# Altium integrated library Lattice Semiconductor ECP3.IntLib: 126 symbols (part 7 of 29)
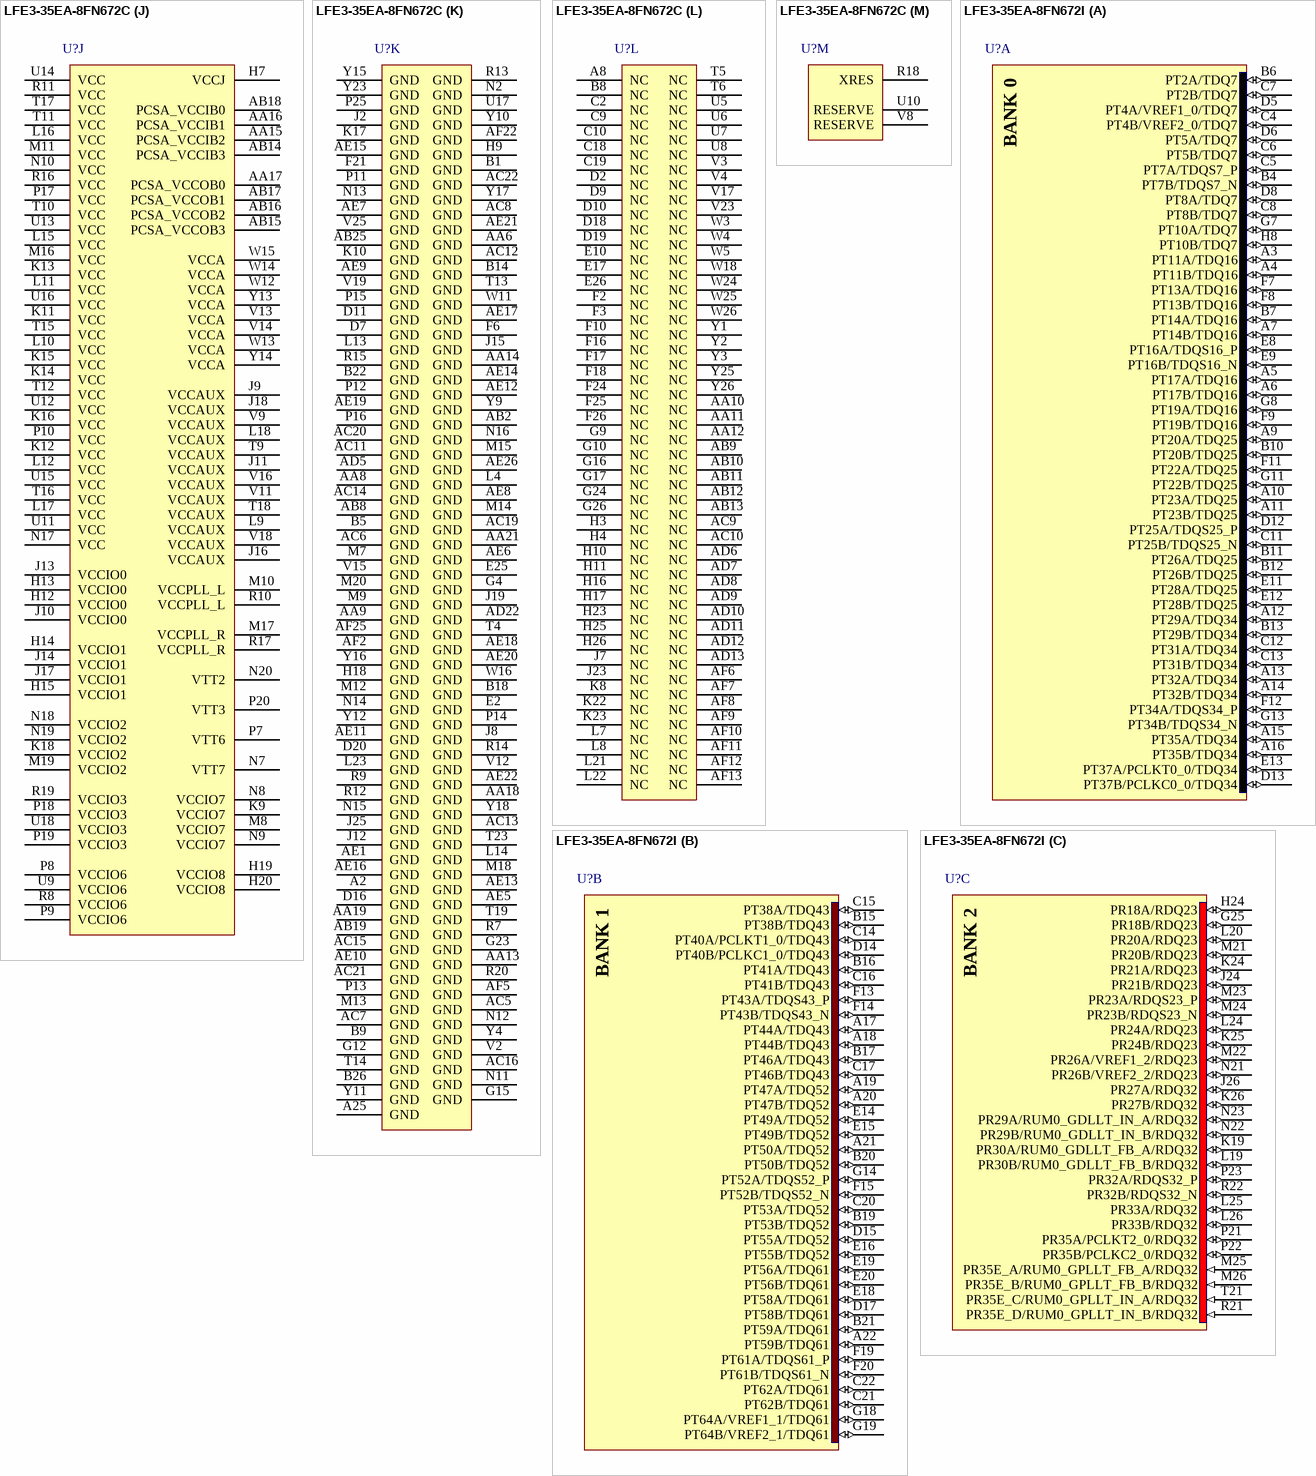
[diagram p262: symbols LFE3-35EA-8FN672C to LFE3-35EA-8FN672I]

## LFE3-35EA-8FN672C
designator U?
ECP3 1.2V FPGA, 310 I/Os, 33K LUTs, 672-Pin BGA, Speed Grade 8, Commercial Grade, Pb-Free; DatasheetVersion: Ver 01.9EA, Jul-2011; PackageVersion: ver02.8, Jul-2011; PackageReference: fpBGA672; PackageDescription: 672-Ball Fine Pitch Ball Grid Array (fpBGA672); ComponentLink1Description: Manufacturer URL; ComponentLink1URL: http://www.latticesemi.com/; ComponentLink2Description: Datasheet; ComponentLink2URL: http://www.latticesemi.com/documents/ds1021ea.pdf; ComponentLink3Description: Package Specification; ComponentLink3URL: http://www.latticesemi.com/lit/docs/package/pkg.pdf
footprint fpBGA672 (BGA, 672-Leads, Body 27x27mm, Pitch 1mm)
part A pins: A3 PT11A/TDQ16 (io), A4 PT11B/TDQ16 (io), A5 PT17A/TDQ16 (io), A6 PT17B/TDQ16 (io), A7 PT14B/TDQ16 (io), A9 PT20A/TDQ25 (io), A10 PT23A/TDQ25 (io), A11 PT23B/TDQ25 (io), A12 PT29A/TDQ34 (io), A13 PT32A/TDQ34 (io), A14 PT32B/TDQ34 (io), A15 PT35A/TDQ34 (io), A16 PT35B/TDQ34 (io), B4 PT7B/TDQS7_N (io), B6 PT2A/TDQ7 (io), B7 PT14A/TDQ16 (io), B10 PT20B/TDQ25 (io), B11 PT26A/TDQ25 (io), B12 PT26B/TDQ25 (io), B13 PT29B/TDQ34 (io), C4 PT4B/VREF2_0/TDQ7 (io), C5 PT7A/TDQS7_P (io), C6 PT5B/TDQ7 (io), C7 PT2B/TDQ7 (io), C8 PT8B/TDQ7 (io), C11 PT25B/TDQS25_N (io), C12 PT31A/TDQ34 (io), C13 PT31B/TDQ34 (io), D5 PT4A/VREF1_0/TDQ7 (io), D6 PT5A/TDQ7 (io), D8 PT8A/TDQ7 (io), D12 PT25A/TDQS25_P (io), D13 PT37B/PCLKC0_0/TDQ34 (io), E8 PT16A/TDQS16_P (io), E9 PT16B/TDQS16_N (io), E11 PT28A/TDQ25 (io), E12 PT28B/TDQ25 (io), E13 PT37A/PCLKT0_0/TDQ34 (io), F7 PT13A/TDQ16 (io), F8 PT13B/TDQ16 (io), F9 PT19B/TDQ16 (io), F11 PT22A/TDQ25 (io), F12 PT34A/TDQS34_P (io), G7 PT10A/TDQ7 (io), G8 PT19A/TDQ16 (io), G11 PT22B/TDQ25 (io), G13 PT34B/TDQS34_N (io), H8 PT10B/TDQ7 (io)
part B pins: A17 PT44A/TDQ43 (io), A18 PT44B/TDQ43 (io), A19 PT47A/TDQ52 (io), A20 PT47B/TDQ52 (io), A21 PT50A/TDQ52 (io), A22 PT59B/TDQ61 (io), B15 PT38B/TDQ43 (io), B16 PT41A/TDQ43 (io), B17 PT46A/TDQ43 (io), B19 PT53B/TDQ52 (io), B20 PT50B/TDQ52 (io), B21 PT59A/TDQ61 (io), C14 PT40A/PCLKT1_0/TDQ43 (io), C15 PT38A/TDQ43 (io), C16 PT41B/TDQ43 (io), C17 PT46B/TDQ43 (io), C20 PT53A/TDQ52 (io), C21 PT62B/TDQ61 (io), C22 PT62A/TDQ61 (io), D14 PT40B/PCLKC1_0/TDQ43 (io), D15 PT55A/TDQ52 (io), D17 PT58B/TDQ61 (io), E14 PT49A/TDQ52 (io), E15 PT49B/TDQ52 (io), E16 PT55B/TDQ52 (io), E18 PT58A/TDQ61 (io), E19 PT56A/TDQ61 (io), E20 PT56B/TDQ61 (io), F13 PT43A/TDQS43_P (io), F14 PT43B/TDQS43_N (io), F15 PT52B/TDQS52_N (io), F19 PT61A/TDQS61_P (io), F20 PT61B/TDQS61_N (io), G14 PT52A/TDQS52_P (io), G18 PT64A/VREF1_1/TDQ61 (io), G19 PT64B/VREF2_1/TDQ61 (io)
part C pins: G25 PR18B/RDQ23 (io), H24 PR18A/RDQ23 (io), J24 PR21B/RDQ23 (io), J26 PR27A/RDQ32 (io), K19 PR30A/RUM0_GDLLT_FB_A/RDQ32 (io), K24 PR21A/RDQ23 (io), K25 PR24B/RDQ23 (io), K26 PR27B/RDQ32 (io), L19 PR30B/RUM0_GDLLT_FB_B/RDQ32 (io), L20 PR20A/RDQ23 (io), L24 PR24A/RDQ23 (io), L25 PR33A/RDQ32 (io), L26 PR33B/RDQ32 (io), M21 PR20B/RDQ23 (io), M22 PR26A/VREF1_2/RDQ23 (io), M23 PR23A/RDQS23_P (io), M24 PR23B/RDQS23_N (io), M25 PR35E_A/RUM0_GPLLT_FB_A/RDQ32 (in), M26 PR35E_B/RUM0_GPLLT_FB_B/RDQ32 (in), N21 PR26B/VREF2_2/RDQ23 (io), N22 PR29B/RUM0_GDLLT_IN_B/RDQ32 (io), N23 PR29A/RUM0_GDLLT_IN_A/RDQ32 (io), P21 PR35A/PCLKT2_0/RDQ32 (io), P22 PR35B/PCLKC2_0/RDQ32 (io), P23 PR32A/RDQS32_P (io), R21 PR35E_D/RUM0_GPLLT_IN_B/RDQ32 (in), R22 PR32B/RDQS32_N (io), T21 PR35E_C/RUM0_GPLLT_IN_A/RDQ32 (in)
part D pins: AA20 PB73B (io), AA22 PR68B/RDQS68_N (io), AA23 PR62B/RDQ59 (io), AA24 PR62A/RDQ59 (io), AA25 PR54A/RDQ59 (io), AA26 PR57A/RDQ59 (io), AB20 PB67A (io), AB21 PB67B (io), AB22 PB71B (io), AB23 PB71A (io), AB24 PR66A/RDQ68 (io), AB26 PR57B/RDQ59 (io), AC23 PB65B (io), AC24 PR66B/RDQ68 (io), AC25 PR63B/RDQ68 (io), AC26 PR63A/RDQ68 (io), AD23 PB65A (io), AD24 PR71A/RDQ68 (io), AD25 PR60B/RDQ59 (io), AD26 PR60A/RDQ59 (io), AE23 PB68B (io), AE24 PR71B/RDQ68 (io), AE25 PR69A/RDQ68 (io), AF23 PB68A (io), AF24 PR69B/RDQ68 (io), N24 PR36A/RDQ41 (io), N25 PR36B/RDQ41 (io), N26 PR42A/RDQ41 (io), P24 PR39A/RDQ41 (io), P26 PR42B/RDQ41 (io), R23 PR41A/RDQS41_P (io), R24 PR39B/RDQ41 (io), R25 PR45A/RDQ50 (io), R26 PR45B/RDQ50 (io), T20 PR44A/VREF1_3/RDQ41 (io), T22 PR41B/RDQS41_N (io), T24 PR48B/RDQ50 (io), T25 PR48A/RDQ50 (io), T26 PR51A/RDQ50 (io), U19 PR38B/PCLKC3_0/RDQ41 (io), U20 PR38A/PCLKT3_0/RDQ41 (io), U21 PR44B/VREF2_3/RDQ41 (io), U22 PR53B/RDQ50 (io), U23 PR53A/RDQ50 (io), U24 PR47A/RDQ50 (io), U25 PR53E_A/RLM1_GPLLT_FB_A/RDQ50 (in), U26 PR51B/RDQ50 (io), V20 PR53E_C/RLM1_GPLLT_IN_A/RDQ50 (in), V21 PR50A/RDQS50_P (io), V22 PR50B/RDQS50_N (io), V24 PR47B/RDQ50 (io), V26 PR53E_B/RLM1_GPLLT_FB_B/RDQ50 (in), W17 PB70A (io), W19 PR53E_D/RLM1_GPLLT_IN_B/RDQ50 (in), W20 PR59B/RDQS59_N (io), W21 PR59A/RDQS59_P (io), W22 PR56B/RDQ59 (io), W23 PR56A/RDQ59 (io), Y19 PR65A/RDQ68 (io), Y20 PR65B/RDQ68 (io), Y21 PB73A (io), Y22 PR68A/RDQS68_P (io), Y24 PR54B/RDQ59 (io)
part E pins: AA1 PL54A/LDQ59 (io), AA2 PL54B/LDQ59 (io), AA3 PL63A/LDQ68 (io), AA4 PL63B/LDQ68 (io), AA5 PL62B/LDQ59 (io), AA7 PB4A (io), AB1 PL57A/LDQ59 (io), AB3 PL66A/LDQ68 (io), AB4 PL66B/LDQ68 (io), AB5 PL65A/LDQ68 (io), AB6 PL65B/LDQ68 (io), AB7 PB4B (io), AC1 PL57B/LDQ59 (io), AC2 PL60A/LDQ59 (io), AC3 PL60B/LDQ59 (io), AC4 PB5B (io), AD1 PL69A/LDQ68 (io), AD2 PL69B/LDQ68 (io), AD3 PB5A (io), AD4 PB2A (io), AE2 PB8A (io), AE3 PB2B (io), AE4 PB11A (io), AF3 PB8B (io), AF4 PB11B (io), N3 PL41A/LDQS41_P (io), N5 PL38A/PCLKT6_0/LDQ41 (io), N6 PL38B/PCLKC6_0/LDQ41 (io), P1 PL36A/LDQ41 (io), P2 PL36B/LDQ41 (io), P3 PL41B/LDQS41_N (io), P4 PL45A/LDQ50 (io), P5 PL44A/VREF1_6/LDQ41 (io), P6 PL44B/VREF2_6/LDQ41 (io), R1 PL39A/LDQ41 (io), R2 PL39B/LDQ41 (io), R3 PL45B/LDQ50 (io), R4 PL50B/LDQS50_N (io), R5 PL47A/LDQ50 (io), R6 PL47B/LDQ50 (io), T1 PL48A/LDQ50 (io), T2 PL42A/LDQ41 (io), T3 PL50A/LDQS50_P (io), T7 PL53A/LDQ50 (io), T8 PL53B/LDQ50 (io), U1 PL48B/LDQ50 (io), U2 PL51B/LDQ50 (io), U3 PL42B/LDQ41 (io), U4 PL53E_C/LLM1_GPLLT_IN_A (in), V1 PL51A/LDQ50 (io), V5 PL53E_D/LLM1_GPLLT_IN_B (in), V6 PL56A/LDQ59 (io), V7 PL56B/LDQ59 (io), V10 PB13A (io), W1 PL53E_A/LLM1_GPLLT_FB_A (in), W2 PL53E_B/LLM1_GPLLT_FB_B (in), W6 PL59B/LDQS59_N (io), W7 PL59A/LDQS59_P (io), W8 PL71A/LDQ68 (io), W9 PL71B/LDQ68 (io), W10 PB13B (io), Y5 PL62A/LDQ59 (io), Y6 PL68A/LDQS68_P (io), Y7 PL68B/LDQS68_N (io), Y8 PB10A (io)
part F pins: B2 PL9A/LDQ14 (io), B3 PL9B/LDQ14 (io), C1 PL21B/LDQ23 (io), C3 PL12A/LDQ14 (io), D1 PL21A/LDQ23 (io), D3 PL12B/LDQ14 (io), D4 PL11A/LDQ14 (io), E1 PL24A/LDQ23 (io), E3 PL15A/LDQ14 (io), E4 PL11B/LDQ14 (io), F1 PL24B/LDQ23 (io), F4 PL15B/LDQ14 (io), G1 PL27B/LDQ32 (io), G2 PL6A (io), G3 PL6B (io), G5 PL14A/LDQS14_P (io), G6 PL14B/LDQS14_N (io), H1 PL30A/LUM0_GDLLT_FB_A/LDQ32 (io), H2 PL27A/LDQ32 (io), H5 PL8A (io), H6 PL17A/LDQ14 (io), J1 PL30B/LUM0_GDLLT_FB_B/LDQ32 (io), J3 PL20B/LDQ23 (io), J4 PL20A/LDQ23 (io), J5 PL8B (io), J6 PL17B/LDQ14 (io), K1 PL18B/LDQ23 (io), K2 PL18A/LDQ23 (io), K3 PL29A/LUM0_GDLLT_IN_A/LDQ32 (io), K4 PL23A/LDQS23_P (io), K5 PL23B/LDQS23_N (io), K6 PL5B (io), K7 PL5A (io), L1 PL33B/LDQ32 (io), L2 PL33A/LDQ32 (io), L3 PL29B/LUM0_GDLLT_IN_B/LDQ32 (io), L5 PL26A/VREF1_7/LDQ23 (io), L6 PL26B/VREF2_7/LDQ23 (io), M1 PL35E_A/LUM0_GPLLT_FB_A (in), M2 PL35E_D/LUM0_GPLLT_IN_B (in), M3 PL35E_C/LUM0_GPLLT_IN_A (in), M4 PL35A/PCLKT7_0/LDQ32 (io), M5 PL32A/LDQS32_P (io), M6 PL32B/LDQS32_N (io), N1 PL35E_B/LUM0_GPLLT_FB_B (in), N4 PL35B/PCLKC7_0/LDQ32 (io)
part G pins: B25 PR15A/D5 (io), C23 PR6A (io), C24 PR6B/DI/CSSPI0N/CSSPIN (io), C25 PR9B/MCLK (io), C26 PR15B/D6/SPID1 (io), D21 PT68B (io), D22 PT68A (io), D23 PR11B/D0/SPIFASTN (io), D24 PR9A/DOUT/CSON/CSSPI1N (io), D25 PR12A/D1 (io), D26 PR12B/D2 (io), E22 PT71B (io), E23 PT71A (io), E24 PR11A/WRITEN (io), F22 PT73B (io), F23 PT73A (io), G20 PT70A (io), G21 PT70B (io), G22 PR8A/CS1N/HOLDN/CONT2N (io), H22 PR8B/CSN/SN/CONT1N (io), J21 PR14A/D3/SI (io), J22 PR14B/D4/SO (io), K20 PR17A/D7/SPID0 (io), K21 PR17B/BUSY/SISPI (io)
part H pins: A23 CFG1 (in), A24 CCLK (in), B23 CFG0 (in), B24 DONE (io), E5 TCK (in), E6 TMS (in), E7 TDO (out), E21 CFG2 (in), F5 TDI (in), H21 INITN (io), J20 PROGRAMN (in)
part I pins: AC17 PCSA_REFCLKP (in), AC18 PCSA_REFCLKN (in), AD14 PCSA_HDINP3 (in), AD15 PCSA_HDINN3 (in), AD16 PCSA_HDINN2 (in), AD17 PCSA_HDINP2 (in), AD18 PCSA_HDINP1 (in), AD19 PCSA_HDINN1 (in), AD20 PCSA_HDINN0 (in), AD21 PCSA_HDINP0 (in), AF14 PCSA_HDOUTP3 (out), AF15 PCSA_HDOUTN3 (out), AF16 PCSA_HDOUTN2 (out), AF17 PCSA_HDOUTP2 (out), AF18 PCSA_HDOUTP1 (out), AF19 PCSA_HDOUTN1 (out), AF20 PCSA_HDOUTN0 (out), AF21 PCSA_HDOUTP0 (out)
part J pins: AA15 PCSA_VCCIB2 (power), AA16 PCSA_VCCIB1 (power), AA17 PCSA_VCCOB0 (power), AB14 PCSA_VCCIB3 (power), AB15 PCSA_VCCOB3 (power), AB16 PCSA_VCCOB2 (power), AB17 PCSA_VCCOB1 (power), AB18 PCSA_VCCIB0 (power), H7 VCCJ (power), H12 VCCIO0 (power), H13 VCCIO0 (power), H14 VCCIO1 (power), H15 VCCIO1 (power), H19 VCCIO8 (power), H20 VCCIO8 (power), J9 VCCAUX (power), J10 VCCIO0 (power), J11 VCCAUX (power), J13 VCCIO0 (power), J14 VCCIO1 (power), J16 VCCAUX (power), J17 VCCIO1 (power), J18 VCCAUX (power), K9 VCCIO7 (power), K11 VCC (power), K12 VCC (power), K13 VCC (power), K14 VCC (power), K15 VCC (power), K16 VCC (power), K18 VCCIO2 (power), L9 VCCAUX (power), L10 VCC (power), L11 VCC (power), L12 VCC (power), L15 VCC (power), L16 VCC (power), L17 VCC (power), L18 VCCAUX (power), M8 VCCIO7 (power), M10 VCCPLL_L (power), M11 VCC (power), M16 VCC (power), M17 VCCPLL_R (power), M19 VCCIO2 (power), N7 VTT7 (power), N8 VCCIO7 (power), N9 VCCIO7 (power), N10 VCC (power), N17 VCC (power), N18 VCCIO2 (power), N19 VCCIO2 (power), N20 VTT2 (power), P7 VTT6 (power), P8 VCCIO6 (power), P9 VCCIO6 (power), P10 VCC (power), P17 VCC (power), P18 VCCIO3 (power), P19 VCCIO3 (power), P20 VTT3 (power), R8 VCCIO6 (power), R10 VCCPLL_L (power), R11 VCC (power), R16 VCC (power), R17 VCCPLL_R (power), R19 VCCIO3 (power), T9 VCCAUX (power), T10 VCC (power), T11 VCC (power), T12 VCC (power), T15 VCC (power), T16 VCC (power), T17 VCC (power), T18 VCCAUX (power), U9 VCCIO6 (power), U11 VCC (power), U12 VCC (power), U13 VCC (power), U14 VCC (power), U15 VCC (power), U16 VCC (power), U18 VCCIO3 (power), V9 VCCAUX (power), V11 VCCAUX (power), V13 VCCA (power), V14 VCCA (power), V16 VCCAUX (power), V18 VCCAUX (power), W12 VCCA (power), W13 VCCA (power), W14 VCCA (power), W15 VCCA (power), Y13 VCCA (power), Y14 VCCA (power)
part K pins: A2 GND (power), A25 GND (power), AA6 GND (power), AA8 GND (power), AA9 GND (power), AA13 GND (power), AA14 GND (power), AA18 GND (power), AA19 GND (power), AA21 GND (power), AB2 GND (power), AB8 GND (power), AB19 GND (power), AB25 GND (power), AC5 GND (power), AC6 GND (power), AC7 GND (power), AC8 GND (power), AC11 GND (power), AC12 GND (power), AC13 GND (power), AC14 GND (power), AC15 GND (power), AC16 GND (power), AC19 GND (power), AC20 GND (power), AC21 GND (power), AC22 GND (power), AD5 GND (power), AD22 GND (power), AE1 GND (power), AE5 GND (power), AE6 GND (power), AE7 GND (power), AE8 GND (power), AE9 GND (power), AE10 GND (power), AE11 GND (power), AE12 GND (power), AE13 GND (power), AE14 GND (power), AE15 GND (power), AE16 GND (power), AE17 GND (power), AE18 GND (power), AE19 GND (power), AE20 GND (power), AE21 GND (power), AE22 GND (power), AE26 GND (power), AF2 GND (power), AF5 GND (power), AF22 GND (power), AF25 GND (power), B1 GND (power), B5 GND (power), B9 GND (power), B14 GND (power), B18 GND (power), B22 GND (power), B26 GND (power), D7 GND (power), D11 GND (power), D16 GND (power), D20 GND (power), E2 GND (power), E25 GND (power), F6 GND (power), F21 GND (power), G4 GND (power), G12 GND (power), G15 GND (power), G23 GND (power), H9 GND (power), H18 GND (power), J2 GND (power), J8 GND (power), J12 GND (power), J15 GND (power), J19 GND (power), J25 GND (power), K10 GND (power), K17 GND (power), L4 GND (power), L13 GND (power), L14 GND (power), L23 GND (power), M7 GND (power), M9 GND (power), M12 GND (power), M13 GND (power), M14 GND (power), M15 GND (power), M18 GND (power), M20 GND (power), N2 GND (power), N11 GND (power), N12 GND (power), N13 GND (power), N14 GND (power), N15 GND (power), N16 GND (power), P11 GND (power), P12 GND (power), P13 GND (power), P14 GND (power), P15 GND (power), P16 GND (power), P25 GND (power), R7 GND (power), R9 GND (power), R12 GND (power), R13 GND (power), R14 GND (power), R15 GND (power), R20 GND (power), T4 GND (power), T13 GND (power), T14 GND (power), T19 GND (power), T23 GND (power), U17 GND (power), V2 GND (power), V12 GND (power), V15 GND (power), V19 GND (power), V25 GND (power), W11 GND (power), W16 GND (power), Y4 GND (power), Y9 GND (power), Y10 GND (power), Y11 GND (power), Y12 GND (power), Y15 GND (power), Y16 GND (power), Y17 GND (power), Y18 GND (power), Y23 GND (power)
part L pins: A8 NC, AA10 NC, AA11 NC, AA12 NC, AB9 NC, AB10 NC, AB11 NC, AB12 NC, AB13 NC, AC9 NC, AC10 NC, AD6 NC, AD7 NC, AD8 NC, AD9 NC, AD10 NC, AD11 NC, AD12 NC, AD13 NC, AF6 NC, AF7 NC, AF8 NC, AF9 NC, AF10 NC, AF11 NC, AF12 NC, AF13 NC, B8 NC, C2 NC, C9 NC, C10 NC, C18 NC, C19 NC, D2 NC, D9 NC, D10 NC, D18 NC, D19 NC, E10 NC, E17 NC, E26 NC, F2 NC, F3 NC, F10 NC, F16 NC, F17 NC, F18 NC, F24 NC, F25 NC, F26 NC, G9 NC, G10 NC, G16 NC, G17 NC, G24 NC, G26 NC, H3 NC, H4 NC, H10 NC, H11 NC, H16 NC, H17 NC, H23 NC, H25 NC, H26 NC, J7 NC, J23 NC, K8 NC, K22 NC, K23 NC, L7 NC, L8 NC, L21 NC, L22 NC, T5 NC, T6 NC, U5 NC, U6 NC, U7 NC, U8 NC, V3 NC, V4 NC, V17 NC, V23 NC, W3 NC, W4 NC, W5 NC, W18 NC, W24 NC, W25 NC, W26 NC, Y1 NC, Y2 NC, Y3 NC, Y25 NC, Y26 NC
part M pins: R18 XRES, U10 RESERVE, V8 RESERVE
part A text: BANK 0
part B text: BANK 1
part C text: BANK 2
part D text: BANK 3
part E text: BANK 6
part F text: BANK 7
part G text: BANK 8

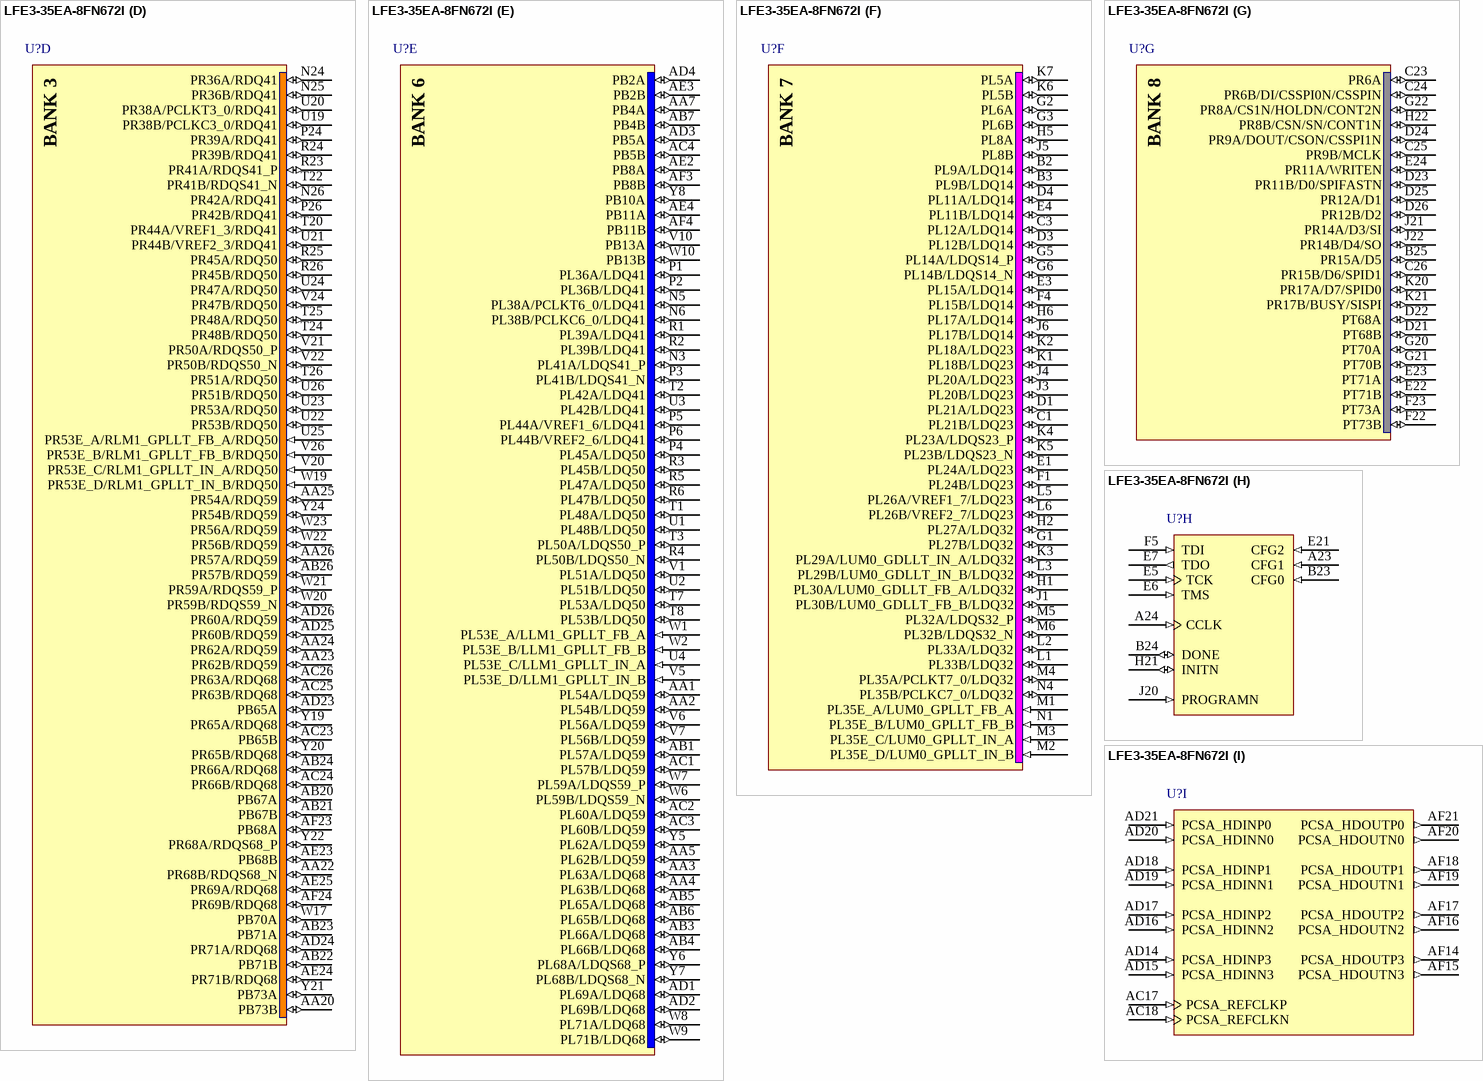
[diagram p38: symbol LFE3-35EA-8FN672I]

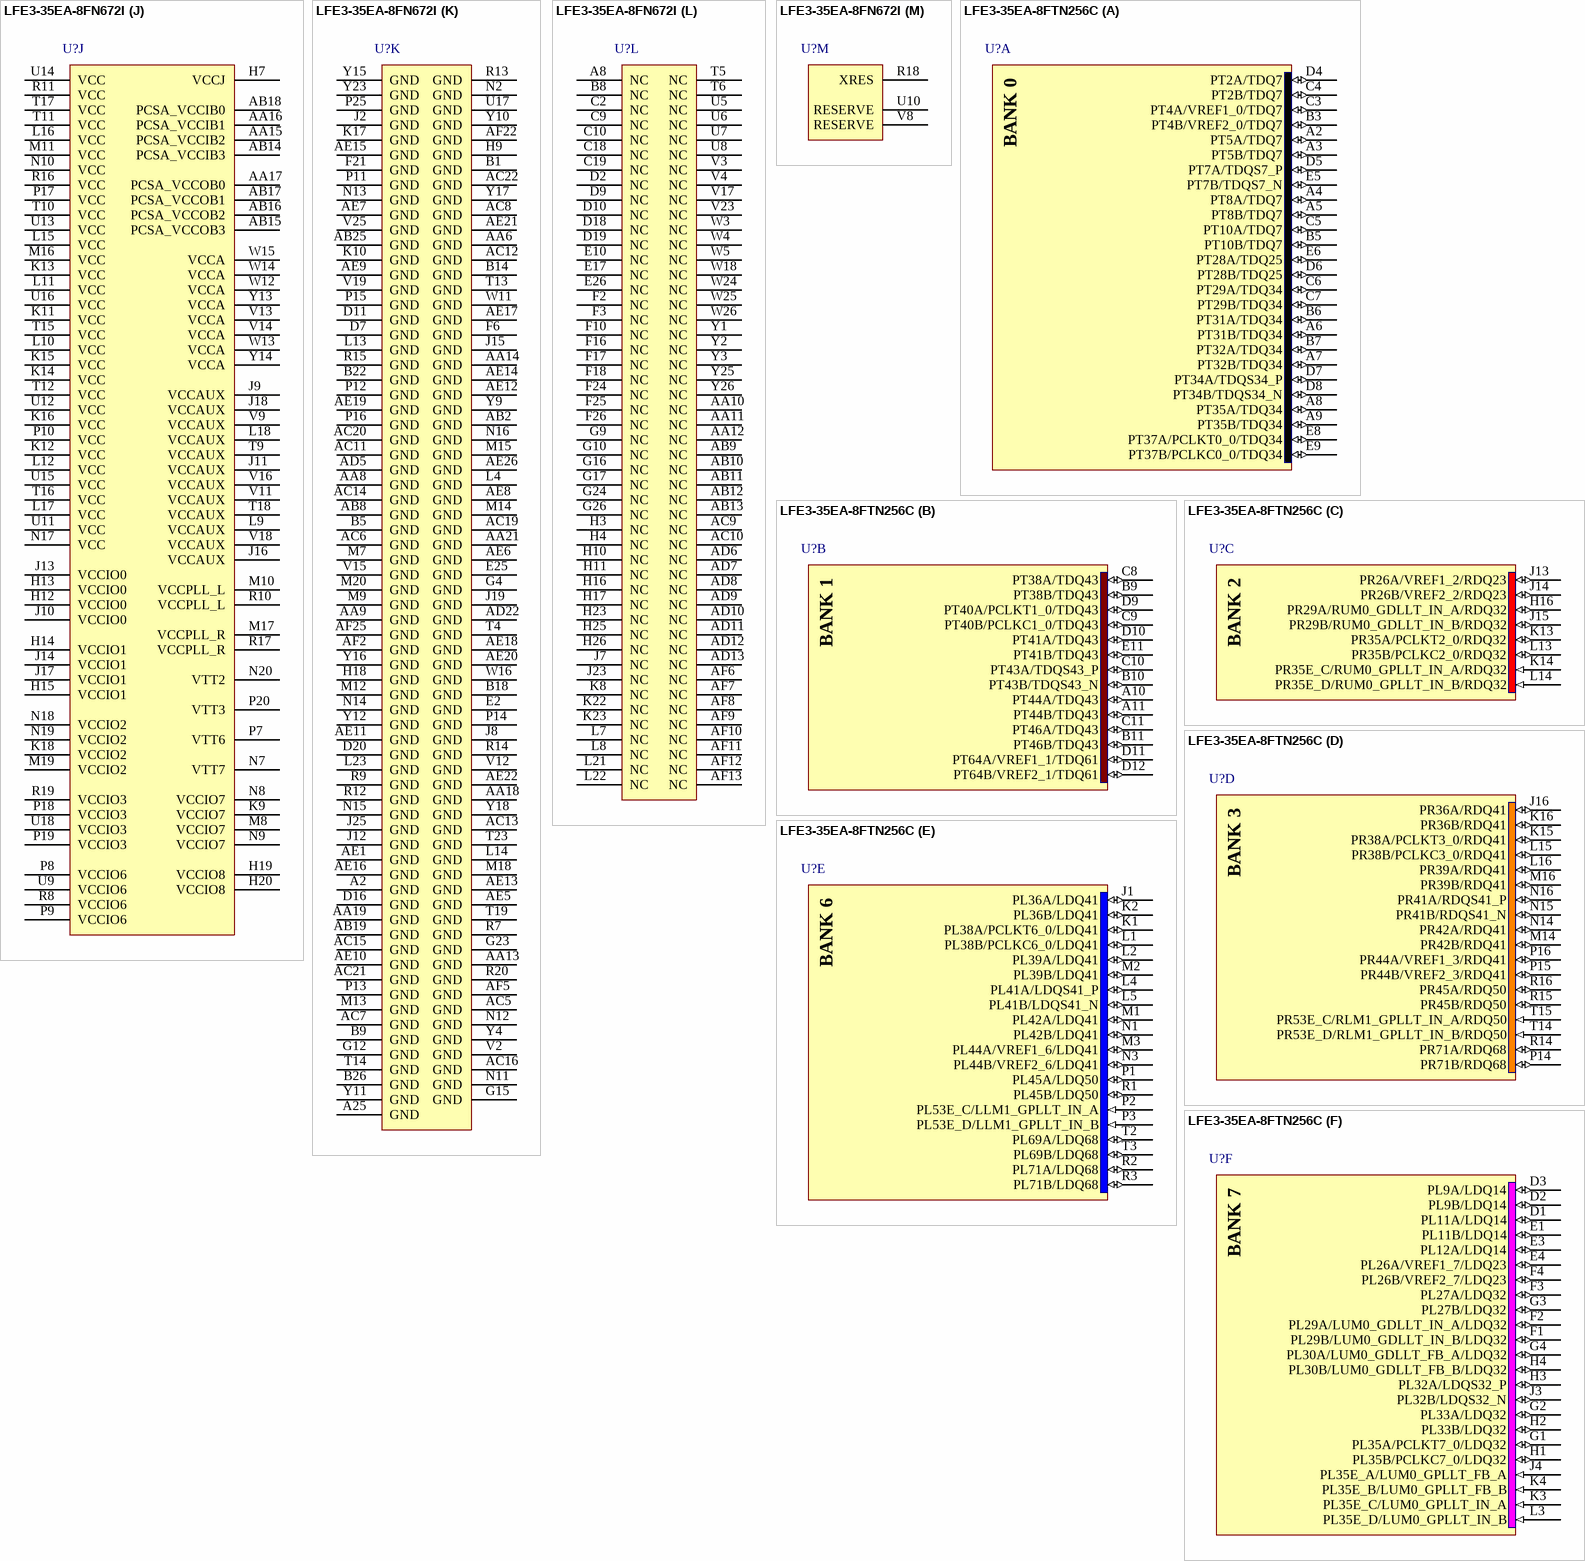
[diagram p39: symbols LFE3-35EA-8FN672I to LFE3-35EA-8FTN256C]

## LFE3-35EA-8FN672I
designator U?
ECP3 1.2V FPGA, 310 I/Os, 33K LUTs, 672-Pin BGA, Speed Grade 8, Industrial Grade, Pb-Free; DatasheetVersion: Ver 01.9EA, Jul-2011; PackageVersion: ver02.8, Jul-2011; PackageReference: fpBGA672; PackageDescription: 672-Ball Fine Pitch Ball Grid Array (fpBGA672); ComponentLink1Description: Manufacturer URL; ComponentLink1URL: http://www.latticesemi.com/; ComponentLink2Description: Datasheet; ComponentLink2URL: http://www.latticesemi.com/documents/ds1021ea.pdf; ComponentLink3Description: Package Specification; ComponentLink3URL: http://www.latticesemi.com/lit/docs/package/pkg.pdf
footprint fpBGA672 (BGA, 672-Leads, Body 27x27mm, Pitch 1mm)
part A pins: A3 PT11A/TDQ16 (io), A4 PT11B/TDQ16 (io), A5 PT17A/TDQ16 (io), A6 PT17B/TDQ16 (io), A7 PT14B/TDQ16 (io), A9 PT20A/TDQ25 (io), A10 PT23A/TDQ25 (io), A11 PT23B/TDQ25 (io), A12 PT29A/TDQ34 (io), A13 PT32A/TDQ34 (io), A14 PT32B/TDQ34 (io), A15 PT35A/TDQ34 (io), A16 PT35B/TDQ34 (io), B4 PT7B/TDQS7_N (io), B6 PT2A/TDQ7 (io), B7 PT14A/TDQ16 (io), B10 PT20B/TDQ25 (io), B11 PT26A/TDQ25 (io), B12 PT26B/TDQ25 (io), B13 PT29B/TDQ34 (io), C4 PT4B/VREF2_0/TDQ7 (io), C5 PT7A/TDQS7_P (io), C6 PT5B/TDQ7 (io), C7 PT2B/TDQ7 (io), C8 PT8B/TDQ7 (io), C11 PT25B/TDQS25_N (io), C12 PT31A/TDQ34 (io), C13 PT31B/TDQ34 (io), D5 PT4A/VREF1_0/TDQ7 (io), D6 PT5A/TDQ7 (io), D8 PT8A/TDQ7 (io), D12 PT25A/TDQS25_P (io), D13 PT37B/PCLKC0_0/TDQ34 (io), E8 PT16A/TDQS16_P (io), E9 PT16B/TDQS16_N (io), E11 PT28A/TDQ25 (io), E12 PT28B/TDQ25 (io), E13 PT37A/PCLKT0_0/TDQ34 (io), F7 PT13A/TDQ16 (io), F8 PT13B/TDQ16 (io), F9 PT19B/TDQ16 (io), F11 PT22A/TDQ25 (io), F12 PT34A/TDQS34_P (io), G7 PT10A/TDQ7 (io), G8 PT19A/TDQ16 (io), G11 PT22B/TDQ25 (io), G13 PT34B/TDQS34_N (io), H8 PT10B/TDQ7 (io)
part B pins: A17 PT44A/TDQ43 (io), A18 PT44B/TDQ43 (io), A19 PT47A/TDQ52 (io), A20 PT47B/TDQ52 (io), A21 PT50A/TDQ52 (io), A22 PT59B/TDQ61 (io), B15 PT38B/TDQ43 (io), B16 PT41A/TDQ43 (io), B17 PT46A/TDQ43 (io), B19 PT53B/TDQ52 (io), B20 PT50B/TDQ52 (io), B21 PT59A/TDQ61 (io), C14 PT40A/PCLKT1_0/TDQ43 (io), C15 PT38A/TDQ43 (io), C16 PT41B/TDQ43 (io), C17 PT46B/TDQ43 (io), C20 PT53A/TDQ52 (io), C21 PT62B/TDQ61 (io), C22 PT62A/TDQ61 (io), D14 PT40B/PCLKC1_0/TDQ43 (io), D15 PT55A/TDQ52 (io), D17 PT58B/TDQ61 (io), E14 PT49A/TDQ52 (io), E15 PT49B/TDQ52 (io), E16 PT55B/TDQ52 (io), E18 PT58A/TDQ61 (io), E19 PT56A/TDQ61 (io), E20 PT56B/TDQ61 (io), F13 PT43A/TDQS43_P (io), F14 PT43B/TDQS43_N (io), F15 PT52B/TDQS52_N (io), F19 PT61A/TDQS61_P (io), F20 PT61B/TDQS61_N (io), G14 PT52A/TDQS52_P (io), G18 PT64A/VREF1_1/TDQ61 (io), G19 PT64B/VREF2_1/TDQ61 (io)
part C pins: G25 PR18B/RDQ23 (io), H24 PR18A/RDQ23 (io), J24 PR21B/RDQ23 (io), J26 PR27A/RDQ32 (io), K19 PR30A/RUM0_GDLLT_FB_A/RDQ32 (io), K24 PR21A/RDQ23 (io), K25 PR24B/RDQ23 (io), K26 PR27B/RDQ32 (io), L19 PR30B/RUM0_GDLLT_FB_B/RDQ32 (io), L20 PR20A/RDQ23 (io), L24 PR24A/RDQ23 (io), L25 PR33A/RDQ32 (io), L26 PR33B/RDQ32 (io), M21 PR20B/RDQ23 (io), M22 PR26A/VREF1_2/RDQ23 (io), M23 PR23A/RDQS23_P (io), M24 PR23B/RDQS23_N (io), M25 PR35E_A/RUM0_GPLLT_FB_A/RDQ32 (in), M26 PR35E_B/RUM0_GPLLT_FB_B/RDQ32 (in), N21 PR26B/VREF2_2/RDQ23 (io), N22 PR29B/RUM0_GDLLT_IN_B/RDQ32 (io), N23 PR29A/RUM0_GDLLT_IN_A/RDQ32 (io), P21 PR35A/PCLKT2_0/RDQ32 (io), P22 PR35B/PCLKC2_0/RDQ32 (io), P23 PR32A/RDQS32_P (io), R21 PR35E_D/RUM0_GPLLT_IN_B/RDQ32 (in), R22 PR32B/RDQS32_N (io), T21 PR35E_C/RUM0_GPLLT_IN_A/RDQ32 (in)
part D pins: AA20 PB73B (io), AA22 PR68B/RDQS68_N (io), AA23 PR62B/RDQ59 (io), AA24 PR62A/RDQ59 (io), AA25 PR54A/RDQ59 (io), AA26 PR57A/RDQ59 (io), AB20 PB67A (io), AB21 PB67B (io), AB22 PB71B (io), AB23 PB71A (io), AB24 PR66A/RDQ68 (io), AB26 PR57B/RDQ59 (io), AC23 PB65B (io), AC24 PR66B/RDQ68 (io), AC25 PR63B/RDQ68 (io), AC26 PR63A/RDQ68 (io), AD23 PB65A (io), AD24 PR71A/RDQ68 (io), AD25 PR60B/RDQ59 (io), AD26 PR60A/RDQ59 (io), AE23 PB68B (io), AE24 PR71B/RDQ68 (io), AE25 PR69A/RDQ68 (io), AF23 PB68A (io), AF24 PR69B/RDQ68 (io), N24 PR36A/RDQ41 (io), N25 PR36B/RDQ41 (io), N26 PR42A/RDQ41 (io), P24 PR39A/RDQ41 (io), P26 PR42B/RDQ41 (io), R23 PR41A/RDQS41_P (io), R24 PR39B/RDQ41 (io), R25 PR45A/RDQ50 (io), R26 PR45B/RDQ50 (io), T20 PR44A/VREF1_3/RDQ41 (io), T22 PR41B/RDQS41_N (io), T24 PR48B/RDQ50 (io), T25 PR48A/RDQ50 (io), T26 PR51A/RDQ50 (io), U19 PR38B/PCLKC3_0/RDQ41 (io), U20 PR38A/PCLKT3_0/RDQ41 (io), U21 PR44B/VREF2_3/RDQ41 (io), U22 PR53B/RDQ50 (io), U23 PR53A/RDQ50 (io), U24 PR47A/RDQ50 (io), U25 PR53E_A/RLM1_GPLLT_FB_A/RDQ50 (in), U26 PR51B/RDQ50 (io), V20 PR53E_C/RLM1_GPLLT_IN_A/RDQ50 (in), V21 PR50A/RDQS50_P (io), V22 PR50B/RDQS50_N (io), V24 PR47B/RDQ50 (io), V26 PR53E_B/RLM1_GPLLT_FB_B/RDQ50 (in), W17 PB70A (io), W19 PR53E_D/RLM1_GPLLT_IN_B/RDQ50 (in), W20 PR59B/RDQS59_N (io), W21 PR59A/RDQS59_P (io), W22 PR56B/RDQ59 (io), W23 PR56A/RDQ59 (io), Y19 PR65A/RDQ68 (io), Y20 PR65B/RDQ68 (io), Y21 PB73A (io), Y22 PR68A/RDQS68_P (io), Y24 PR54B/RDQ59 (io)
part E pins: AA1 PL54A/LDQ59 (io), AA2 PL54B/LDQ59 (io), AA3 PL63A/LDQ68 (io), AA4 PL63B/LDQ68 (io), AA5 PL62B/LDQ59 (io), AA7 PB4A (io), AB1 PL57A/LDQ59 (io), AB3 PL66A/LDQ68 (io), AB4 PL66B/LDQ68 (io), AB5 PL65A/LDQ68 (io), AB6 PL65B/LDQ68 (io), AB7 PB4B (io), AC1 PL57B/LDQ59 (io), AC2 PL60A/LDQ59 (io), AC3 PL60B/LDQ59 (io), AC4 PB5B (io), AD1 PL69A/LDQ68 (io), AD2 PL69B/LDQ68 (io), AD3 PB5A (io), AD4 PB2A (io), AE2 PB8A (io), AE3 PB2B (io), AE4 PB11A (io), AF3 PB8B (io), AF4 PB11B (io), N3 PL41A/LDQS41_P (io), N5 PL38A/PCLKT6_0/LDQ41 (io), N6 PL38B/PCLKC6_0/LDQ41 (io), P1 PL36A/LDQ41 (io), P2 PL36B/LDQ41 (io), P3 PL41B/LDQS41_N (io), P4 PL45A/LDQ50 (io), P5 PL44A/VREF1_6/LDQ41 (io), P6 PL44B/VREF2_6/LDQ41 (io), R1 PL39A/LDQ41 (io), R2 PL39B/LDQ41 (io), R3 PL45B/LDQ50 (io), R4 PL50B/LDQS50_N (io), R5 PL47A/LDQ50 (io), R6 PL47B/LDQ50 (io), T1 PL48A/LDQ50 (io), T2 PL42A/LDQ41 (io), T3 PL50A/LDQS50_P (io), T7 PL53A/LDQ50 (io), T8 PL53B/LDQ50 (io), U1 PL48B/LDQ50 (io), U2 PL51B/LDQ50 (io), U3 PL42B/LDQ41 (io), U4 PL53E_C/LLM1_GPLLT_IN_A (in), V1 PL51A/LDQ50 (io), V5 PL53E_D/LLM1_GPLLT_IN_B (in), V6 PL56A/LDQ59 (io), V7 PL56B/LDQ59 (io), V10 PB13A (io), W1 PL53E_A/LLM1_GPLLT_FB_A (in), W2 PL53E_B/LLM1_GPLLT_FB_B (in), W6 PL59B/LDQS59_N (io), W7 PL59A/LDQS59_P (io), W8 PL71A/LDQ68 (io), W9 PL71B/LDQ68 (io), W10 PB13B (io), Y5 PL62A/LDQ59 (io), Y6 PL68A/LDQS68_P (io), Y7 PL68B/LDQS68_N (io), Y8 PB10A (io)
part F pins: B2 PL9A/LDQ14 (io), B3 PL9B/LDQ14 (io), C1 PL21B/LDQ23 (io), C3 PL12A/LDQ14 (io), D1 PL21A/LDQ23 (io), D3 PL12B/LDQ14 (io), D4 PL11A/LDQ14 (io), E1 PL24A/LDQ23 (io), E3 PL15A/LDQ14 (io), E4 PL11B/LDQ14 (io), F1 PL24B/LDQ23 (io), F4 PL15B/LDQ14 (io), G1 PL27B/LDQ32 (io), G2 PL6A (io), G3 PL6B (io), G5 PL14A/LDQS14_P (io), G6 PL14B/LDQS14_N (io), H1 PL30A/LUM0_GDLLT_FB_A/LDQ32 (io), H2 PL27A/LDQ32 (io), H5 PL8A (io), H6 PL17A/LDQ14 (io), J1 PL30B/LUM0_GDLLT_FB_B/LDQ32 (io), J3 PL20B/LDQ23 (io), J4 PL20A/LDQ23 (io), J5 PL8B (io), J6 PL17B/LDQ14 (io), K1 PL18B/LDQ23 (io), K2 PL18A/LDQ23 (io), K3 PL29A/LUM0_GDLLT_IN_A/LDQ32 (io), K4 PL23A/LDQS23_P (io), K5 PL23B/LDQS23_N (io), K6 PL5B (io), K7 PL5A (io), L1 PL33B/LDQ32 (io), L2 PL33A/LDQ32 (io), L3 PL29B/LUM0_GDLLT_IN_B/LDQ32 (io), L5 PL26A/VREF1_7/LDQ23 (io), L6 PL26B/VREF2_7/LDQ23 (io), M1 PL35E_A/LUM0_GPLLT_FB_A (in), M2 PL35E_D/LUM0_GPLLT_IN_B (in), M3 PL35E_C/LUM0_GPLLT_IN_A (in), M4 PL35A/PCLKT7_0/LDQ32 (io), M5 PL32A/LDQS32_P (io), M6 PL32B/LDQS32_N (io), N1 PL35E_B/LUM0_GPLLT_FB_B (in), N4 PL35B/PCLKC7_0/LDQ32 (io)
part G pins: B25 PR15A/D5 (io), C23 PR6A (io), C24 PR6B/DI/CSSPI0N/CSSPIN (io), C25 PR9B/MCLK (io), C26 PR15B/D6/SPID1 (io), D21 PT68B (io), D22 PT68A (io), D23 PR11B/D0/SPIFASTN (io), D24 PR9A/DOUT/CSON/CSSPI1N (io), D25 PR12A/D1 (io), D26 PR12B/D2 (io), E22 PT71B (io), E23 PT71A (io), E24 PR11A/WRITEN (io), F22 PT73B (io), F23 PT73A (io), G20 PT70A (io), G21 PT70B (io), G22 PR8A/CS1N/HOLDN/CONT2N (io), H22 PR8B/CSN/SN/CONT1N (io), J21 PR14A/D3/SI (io), J22 PR14B/D4/SO (io), K20 PR17A/D7/SPID0 (io), K21 PR17B/BUSY/SISPI (io)
part H pins: A23 CFG1 (in), A24 CCLK (in), B23 CFG0 (in), B24 DONE (io), E5 TCK (in), E6 TMS (in), E7 TDO (out), E21 CFG2 (in), F5 TDI (in), H21 INITN (io), J20 PROGRAMN (in)
part I pins: AC17 PCSA_REFCLKP (in), AC18 PCSA_REFCLKN (in), AD14 PCSA_HDINP3 (in), AD15 PCSA_HDINN3 (in), AD16 PCSA_HDINN2 (in), AD17 PCSA_HDINP2 (in), AD18 PCSA_HDINP1 (in), AD19 PCSA_HDINN1 (in), AD20 PCSA_HDINN0 (in), AD21 PCSA_HDINP0 (in), AF14 PCSA_HDOUTP3 (out), AF15 PCSA_HDOUTN3 (out), AF16 PCSA_HDOUTN2 (out), AF17 PCSA_HDOUTP2 (out), AF18 PCSA_HDOUTP1 (out), AF19 PCSA_HDOUTN1 (out), AF20 PCSA_HDOUTN0 (out), AF21 PCSA_HDOUTP0 (out)
part J pins: AA15 PCSA_VCCIB2 (power), AA16 PCSA_VCCIB1 (power), AA17 PCSA_VCCOB0 (power), AB14 PCSA_VCCIB3 (power), AB15 PCSA_VCCOB3 (power), AB16 PCSA_VCCOB2 (power), AB17 PCSA_VCCOB1 (power), AB18 PCSA_VCCIB0 (power), H7 VCCJ (power), H12 VCCIO0 (power), H13 VCCIO0 (power), H14 VCCIO1 (power), H15 VCCIO1 (power), H19 VCCIO8 (power), H20 VCCIO8 (power), J9 VCCAUX (power), J10 VCCIO0 (power), J11 VCCAUX (power), J13 VCCIO0 (power), J14 VCCIO1 (power), J16 VCCAUX (power), J17 VCCIO1 (power), J18 VCCAUX (power), K9 VCCIO7 (power), K11 VCC (power), K12 VCC (power), K13 VCC (power), K14 VCC (power), K15 VCC (power), K16 VCC (power), K18 VCCIO2 (power), L9 VCCAUX (power), L10 VCC (power), L11 VCC (power), L12 VCC (power), L15 VCC (power), L16 VCC (power), L17 VCC (power), L18 VCCAUX (power), M8 VCCIO7 (power), M10 VCCPLL_L (power), M11 VCC (power), M16 VCC (power), M17 VCCPLL_R (power), M19 VCCIO2 (power), N7 VTT7 (power), N8 VCCIO7 (power), N9 VCCIO7 (power), N10 VCC (power), N17 VCC (power), N18 VCCIO2 (power), N19 VCCIO2 (power), N20 VTT2 (power), P7 VTT6 (power), P8 VCCIO6 (power), P9 VCCIO6 (power), P10 VCC (power), P17 VCC (power), P18 VCCIO3 (power), P19 VCCIO3 (power), P20 VTT3 (power), R8 VCCIO6 (power), R10 VCCPLL_L (power), R11 VCC (power), R16 VCC (power), R17 VCCPLL_R (power), R19 VCCIO3 (power), T9 VCCAUX (power), T10 VCC (power), T11 VCC (power), T12 VCC (power), T15 VCC (power), T16 VCC (power), T17 VCC (power), T18 VCCAUX (power), U9 VCCIO6 (power), U11 VCC (power), U12 VCC (power), U13 VCC (power), U14 VCC (power), U15 VCC (power), U16 VCC (power), U18 VCCIO3 (power), V9 VCCAUX (power), V11 VCCAUX (power), V13 VCCA (power), V14 VCCA (power), V16 VCCAUX (power), V18 VCCAUX (power), W12 VCCA (power), W13 VCCA (power), W14 VCCA (power), W15 VCCA (power), Y13 VCCA (power), Y14 VCCA (power)
part K pins: A2 GND (power), A25 GND (power), AA6 GND (power), AA8 GND (power), AA9 GND (power), AA13 GND (power), AA14 GND (power), AA18 GND (power), AA19 GND (power), AA21 GND (power), AB2 GND (power), AB8 GND (power), AB19 GND (power), AB25 GND (power), AC5 GND (power), AC6 GND (power), AC7 GND (power), AC8 GND (power), AC11 GND (power), AC12 GND (power), AC13 GND (power), AC14 GND (power), AC15 GND (power), AC16 GND (power), AC19 GND (power), AC20 GND (power), AC21 GND (power), AC22 GND (power), AD5 GND (power), AD22 GND (power), AE1 GND (power), AE5 GND (power), AE6 GND (power), AE7 GND (power), AE8 GND (power), AE9 GND (power), AE10 GND (power), AE11 GND (power), AE12 GND (power), AE13 GND (power), AE14 GND (power), AE15 GND (power), AE16 GND (power), AE17 GND (power), AE18 GND (power), AE19 GND (power), AE20 GND (power), AE21 GND (power), AE22 GND (power), AE26 GND (power), AF2 GND (power), AF5 GND (power), AF22 GND (power), AF25 GND (power), B1 GND (power), B5 GND (power), B9 GND (power), B14 GND (power), B18 GND (power), B22 GND (power), B26 GND (power), D7 GND (power), D11 GND (power), D16 GND (power), D20 GND (power), E2 GND (power), E25 GND (power), F6 GND (power), F21 GND (power), G4 GND (power), G12 GND (power), G15 GND (power), G23 GND (power), H9 GND (power), H18 GND (power), J2 GND (power), J8 GND (power), J12 GND (power), J15 GND (power), J19 GND (power), J25 GND (power), K10 GND (power), K17 GND (power), L4 GND (power), L13 GND (power), L14 GND (power), L23 GND (power), M7 GND (power), M9 GND (power), M12 GND (power), M13 GND (power), M14 GND (power), M15 GND (power), M18 GND (power), M20 GND (power), N2 GND (power), N11 GND (power), N12 GND (power), N13 GND (power), N14 GND (power), N15 GND (power), N16 GND (power), P11 GND (power), P12 GND (power), P13 GND (power), P14 GND (power), P15 GND (power), P16 GND (power), P25 GND (power), R7 GND (power), R9 GND (power), R12 GND (power), R13 GND (power), R14 GND (power), R15 GND (power), R20 GND (power), T4 GND (power), T13 GND (power), T14 GND (power), T19 GND (power), T23 GND (power), U17 GND (power), V2 GND (power), V12 GND (power), V15 GND (power), V19 GND (power), V25 GND (power), W11 GND (power), W16 GND (power), Y4 GND (power), Y9 GND (power), Y10 GND (power), Y11 GND (power), Y12 GND (power), Y15 GND (power), Y16 GND (power), Y17 GND (power), Y18 GND (power), Y23 GND (power)
part L pins: A8 NC, AA10 NC, AA11 NC, AA12 NC, AB9 NC, AB10 NC, AB11 NC, AB12 NC, AB13 NC, AC9 NC, AC10 NC, AD6 NC, AD7 NC, AD8 NC, AD9 NC, AD10 NC, AD11 NC, AD12 NC, AD13 NC, AF6 NC, AF7 NC, AF8 NC, AF9 NC, AF10 NC, AF11 NC, AF12 NC, AF13 NC, B8 NC, C2 NC, C9 NC, C10 NC, C18 NC, C19 NC, D2 NC, D9 NC, D10 NC, D18 NC, D19 NC, E10 NC, E17 NC, E26 NC, F2 NC, F3 NC, F10 NC, F16 NC, F17 NC, F18 NC, F24 NC, F25 NC, F26 NC, G9 NC, G10 NC, G16 NC, G17 NC, G24 NC, G26 NC, H3 NC, H4 NC, H10 NC, H11 NC, H16 NC, H17 NC, H23 NC, H25 NC, H26 NC, J7 NC, J23 NC, K8 NC, K22 NC, K23 NC, L7 NC, L8 NC, L21 NC, L22 NC, T5 NC, T6 NC, U5 NC, U6 NC, U7 NC, U8 NC, V3 NC, V4 NC, V17 NC, V23 NC, W3 NC, W4 NC, W5 NC, W18 NC, W24 NC, W25 NC, W26 NC, Y1 NC, Y2 NC, Y3 NC, Y25 NC, Y26 NC
part M pins: R18 XRES, U10 RESERVE, V8 RESERVE
part A text: BANK 0
part B text: BANK 1
part C text: BANK 2
part D text: BANK 3
part E text: BANK 6
part F text: BANK 7
part G text: BANK 8

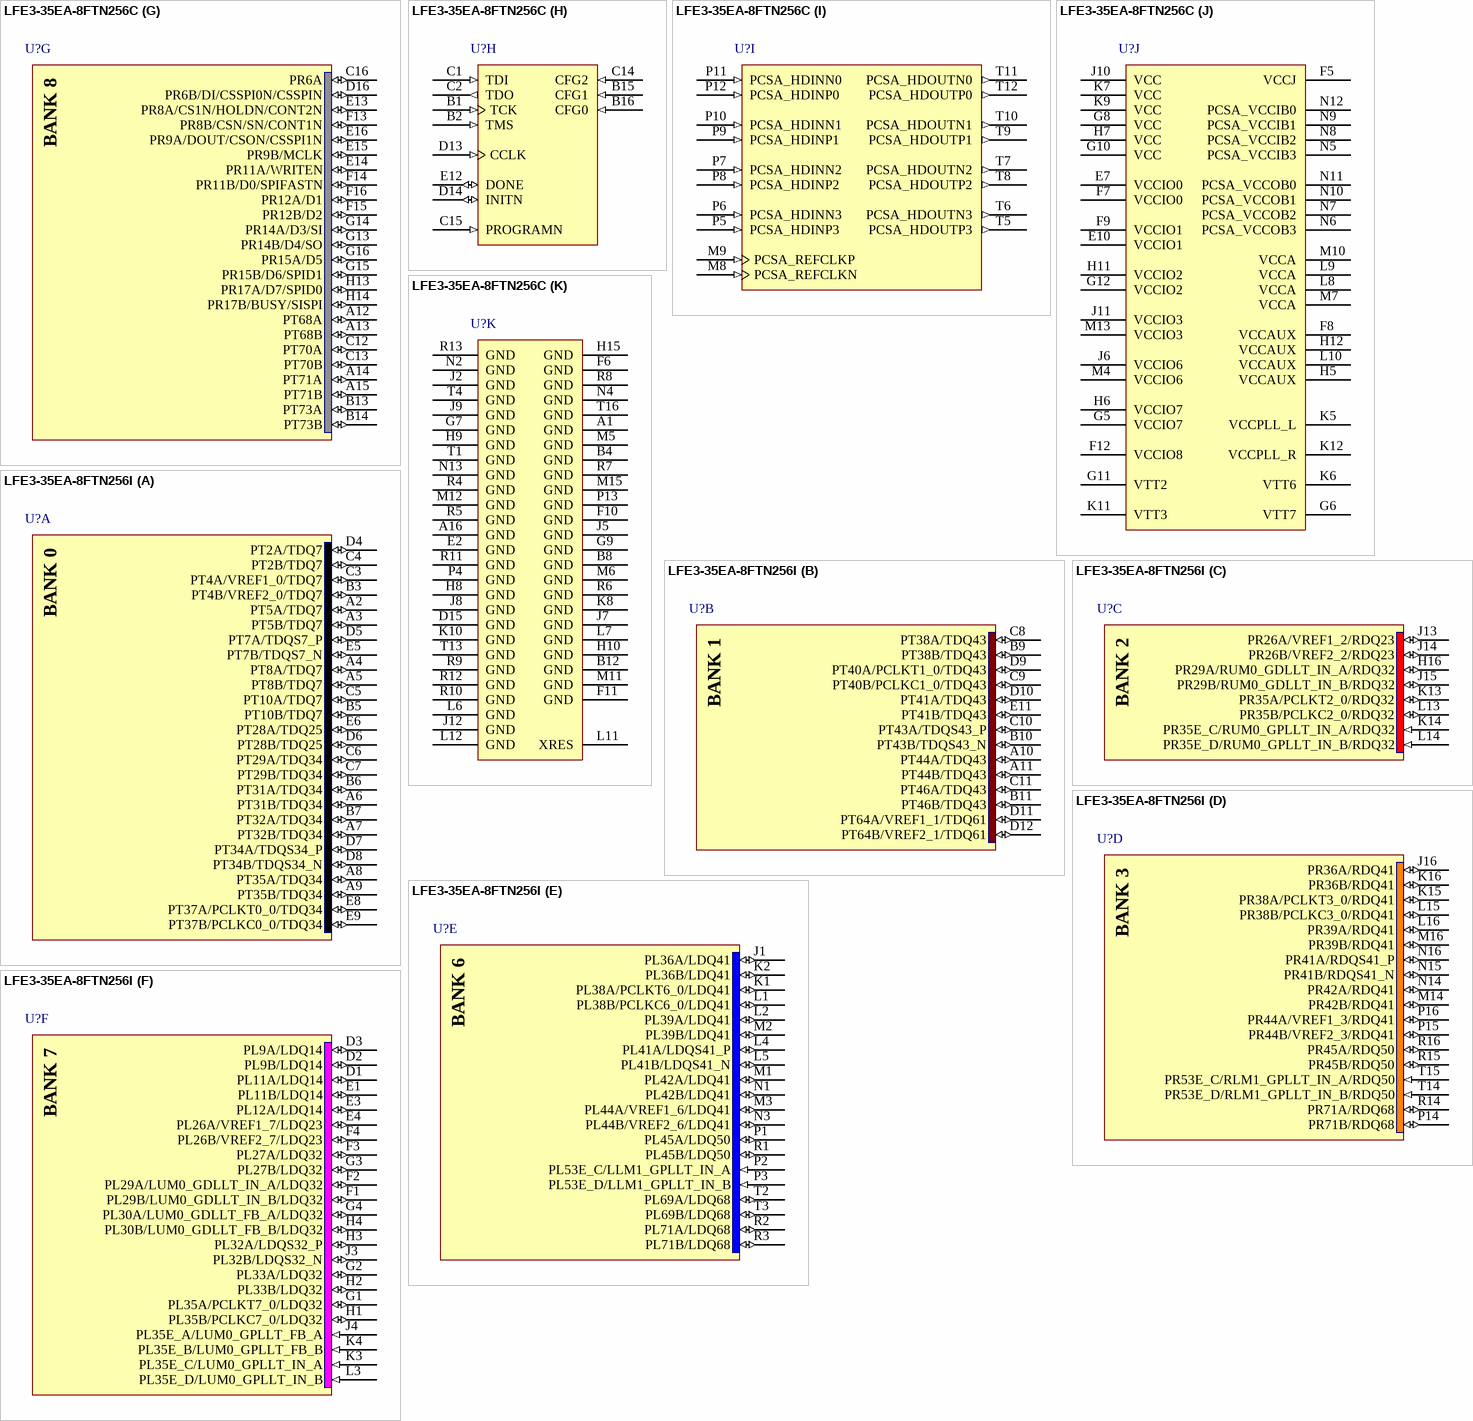
[diagram p40: symbols LFE3-35EA-8FTN256C to LFE3-35EA-8FTN256I]

## LFE3-35EA-8FTN256C
designator U?
ECP3 1.2V FPGA, 133 I/Os, 33K LUTs, 256-Pin BGA, Speed Grade 8, Commercial Grade, Pb-Free; DatasheetVersion: Ver 01.9EA, Jul-2011; PackageVersion: ver02.8, Jul-2011; PackageReference: ftBGA256_2; PackageDescription: 256-Ball ftBGA Package Option 2: LatticeECP3; Code_IPC: BGA100P16X16-256; ComponentLink1Description: Manufacturer URL; ComponentLink1URL: http://www.latticesemi.com/; ComponentLink2Description: Datasheet; ComponentLink2URL: http://www.latticesemi.com/documents/ds1021ea.pdf; ComponentLink3Description: Package Specification; ComponentLink3URL: http://www.latticesemi.com/lit/docs/package/pkg.pdf
footprint ftBGA256_2 (BGA, 256-Leads, Body 17x17mm, Pitch 1mm)
part A pins: A2 PT5A/TDQ7 (io), A3 PT5B/TDQ7 (io), A4 PT8A/TDQ7 (io), A5 PT8B/TDQ7 (io), A6 PT31B/TDQ34 (io), A7 PT32B/TDQ34 (io), A8 PT35A/TDQ34 (io), A9 PT35B/TDQ34 (io), B3 PT4B/VREF2_0/TDQ7 (io), B5 PT10B/TDQ7 (io), B6 PT31A/TDQ34 (io), B7 PT32A/TDQ34 (io), C3 PT4A/VREF1_0/TDQ7 (io), C4 PT2B/TDQ7 (io), C5 PT10A/TDQ7 (io), C6 PT29A/TDQ34 (io), C7 PT29B/TDQ34 (io), D4 PT2A/TDQ7 (io), D5 PT7A/TDQS7_P (io), D6 PT28B/TDQ25 (io), D7 PT34A/TDQS34_P (io), D8 PT34B/TDQS34_N (io), E5 PT7B/TDQS7_N (io), E6 PT28A/TDQ25 (io), E8 PT37A/PCLKT0_0/TDQ34 (io), E9 PT37B/PCLKC0_0/TDQ34 (io)
part B pins: A10 PT44A/TDQ43 (io), A11 PT44B/TDQ43 (io), B9 PT38B/TDQ43 (io), B10 PT43B/TDQS43_N (io), B11 PT46B/TDQ43 (io), C8 PT38A/TDQ43 (io), C9 PT40B/PCLKC1_0/TDQ43 (io), C10 PT43A/TDQS43_P (io), C11 PT46A/TDQ43 (io), D9 PT40A/PCLKT1_0/TDQ43 (io), D10 PT41A/TDQ43 (io), D11 PT64A/VREF1_1/TDQ61 (io), D12 PT64B/VREF2_1/TDQ61 (io), E11 PT41B/TDQ43 (io)
part C pins: H16 PR29A/RUM0_GDLLT_IN_A/RDQ32 (io), J13 PR26A/VREF1_2/RDQ23 (io), J14 PR26B/VREF2_2/RDQ23 (io), J15 PR29B/RUM0_GDLLT_IN_B/RDQ32 (io), K13 PR35A/PCLKT2_0/RDQ32 (io), K14 PR35E_C/RUM0_GPLLT_IN_A/RDQ32 (in), L13 PR35B/PCLKC2_0/RDQ32 (io), L14 PR35E_D/RUM0_GPLLT_IN_B/RDQ32 (in)
part D pins: J16 PR36A/RDQ41 (io), K15 PR38A/PCLKT3_0/RDQ41 (io), K16 PR36B/RDQ41 (io), L15 PR38B/PCLKC3_0/RDQ41 (io), L16 PR39A/RDQ41 (io), M14 PR42B/RDQ41 (io), M16 PR39B/RDQ41 (io), N14 PR42A/RDQ41 (io), N15 PR41B/RDQS41_N (io), N16 PR41A/RDQS41_P (io), P14 PR71B/RDQ68 (io), P15 PR44B/VREF2_3/RDQ41 (io), P16 PR44A/VREF1_3/RDQ41 (io), R14 PR71A/RDQ68 (io), R15 PR45B/RDQ50 (io), R16 PR45A/RDQ50 (io), T14 PR53E_D/RLM1_GPLLT_IN_B/RDQ50 (in), T15 PR53E_C/RLM1_GPLLT_IN_A/RDQ50 (in)
part E pins: J1 PL36A/LDQ41 (io), K1 PL38A/PCLKT6_0/LDQ41 (io), K2 PL36B/LDQ41 (io), L1 PL38B/PCLKC6_0/LDQ41 (io), L2 PL39A/LDQ41 (io), L4 PL41A/LDQS41_P (io), L5 PL41B/LDQS41_N (io), M1 PL42A/LDQ41 (io), M2 PL39B/LDQ41 (io), M3 PL44A/VREF1_6/LDQ41 (io), N1 PL42B/LDQ41 (io), N3 PL44B/VREF2_6/LDQ41 (io), P1 PL45A/LDQ50 (io), P2 PL53E_C/LLM1_GPLLT_IN_A (in), P3 PL53E_D/LLM1_GPLLT_IN_B (in), R1 PL45B/LDQ50 (io), R2 PL71A/LDQ68 (io), R3 PL71B/LDQ68 (io), T2 PL69A/LDQ68 (io), T3 PL69B/LDQ68 (io)
part F pins: D1 PL11A/LDQ14 (io), D2 PL9B/LDQ14 (io), D3 PL9A/LDQ14 (io), E1 PL11B/LDQ14 (io), E3 PL12A/LDQ14 (io), E4 PL26A/VREF1_7/LDQ23 (io), F1 PL29B/LUM0_GDLLT_IN_B/LDQ32 (io), F2 PL29A/LUM0_GDLLT_IN_A/LDQ32 (io), F3 PL27A/LDQ32 (io), F4 PL26B/VREF2_7/LDQ23 (io), G1 PL35A/PCLKT7_0/LDQ32 (io), G2 PL33A/LDQ32 (io), G3 PL27B/LDQ32 (io), G4 PL30A/LUM0_GDLLT_FB_A/LDQ32 (io), H1 PL35B/PCLKC7_0/LDQ32 (io), H2 PL33B/LDQ32 (io), H3 PL32A/LDQS32_P (io), H4 PL30B/LUM0_GDLLT_FB_B/LDQ32 (io), J3 PL32B/LDQS32_N (io), J4 PL35E_A/LUM0_GPLLT_FB_A (in), K3 PL35E_C/LUM0_GPLLT_IN_A (in), K4 PL35E_B/LUM0_GPLLT_FB_B (in), L3 PL35E_D/LUM0_GPLLT_IN_B (in)
part G pins: A12 PT68A (io), A13 PT68B (io), A14 PT71A (io), A15 PT71B (io), B13 PT73A (io), B14 PT73B (io), C12 PT70A (io), C13 PT70B (io), C16 PR6A (io), D16 PR6B/DI/CSSPI0N/CSSPIN (io), E13 PR8A/CS1N/HOLDN/CONT2N (io), E14 PR11A/WRITEN (io), E15 PR9B/MCLK (io), E16 PR9A/DOUT/CSON/CSSPI1N (io), F13 PR8B/CSN/SN/CONT1N (io), F14 PR11B/D0/SPIFASTN (io), F15 PR12B/D2 (io), F16 PR12A/D1 (io), G13 PR14B/D4/SO (io), G14 PR14A/D3/SI (io), G15 PR15B/D6/SPID1 (io), G16 PR15A/D5 (io), H13 PR17A/D7/SPID0 (io), H14 PR17B/BUSY/SISPI (io)
part H pins: B1 TCK (in), B2 TMS (in), B15 CFG1 (in), B16 CFG0 (in), C1 TDI (in), C2 TDO (out), C14 CFG2 (in), C15 PROGRAMN (in), D13 CCLK (in), D14 INITN (io), E12 DONE (io)
part I pins: M8 PCSA_REFCLKN (in), M9 PCSA_REFCLKP (in), P5 PCSA_HDINP3 (in), P6 PCSA_HDINN3 (in), P7 PCSA_HDINN2 (in), P8 PCSA_HDINP2 (in), P9 PCSA_HDINP1 (in), P10 PCSA_HDINN1 (in), P11 PCSA_HDINN0 (in), P12 PCSA_HDINP0 (in), T5 PCSA_HDOUTP3 (out), T6 PCSA_HDOUTN3 (out), T7 PCSA_HDOUTN2 (out), T8 PCSA_HDOUTP2 (out), T9 PCSA_HDOUTP1 (out), T10 PCSA_HDOUTN1 (out), T11 PCSA_HDOUTN0 (out), T12 PCSA_HDOUTP0 (out)
part J pins: E7 VCCIO0 (power), E10 VCCIO1 (power), F5 VCCJ (power), F7 VCCIO0 (power), F8 VCCAUX (power), F9 VCCIO1 (power), F12 VCCIO8 (power), G5 VCCIO7 (power), G6 VTT7 (power), G8 VCC (power), G10 VCC (power), G11 VTT2 (power), G12 VCCIO2 (power), H5 VCCAUX (power), H6 VCCIO7 (power), H7 VCC (power), H11 VCCIO2 (power), H12 VCCAUX (power), J6 VCCIO6 (power), J10 VCC (power), J11 VCCIO3 (power), K5 VCCPLL_L (power), K6 VTT6 (power), K7 VCC (power), K9 VCC (power), K11 VTT3 (power), K12 VCCPLL_R (power), L8 VCCA (power), L9 VCCA (power), L10 VCCAUX (power), M4 VCCIO6 (power), M7 VCCA (power), M10 VCCA (power), M13 VCCIO3 (power), N5 PCSA_VCCIB3 (power), N6 PCSA_VCCOB3 (power), N7 PCSA_VCCOB2 (power), N8 PCSA_VCCIB2 (power), N9 PCSA_VCCIB1 (power), N10 PCSA_VCCOB1 (power), N11 PCSA_VCCOB0 (power), N12 PCSA_VCCIB0 (power)
part K pins: A1 GND (power), A16 GND (power), B4 GND (power), B8 GND (power), B12 GND (power), D15 GND (power), E2 GND (power), F6 GND (power), F10 GND (power), F11 GND (power), G7 GND (power), G9 GND (power), H8 GND (power), H9 GND (power), H10 GND (power), H15 GND (power), J2 GND (power), J5 GND (power), J7 GND (power), J8 GND (power), J9 GND (power), J12 GND (power), K8 GND (power), K10 GND (power), L6 GND (power), L7 GND (power), L11 XRES, L12 GND (power), M5 GND (power), M6 GND (power), M11 GND (power), M12 GND (power), M15 GND (power), N2 GND (power), N4 GND (power), N13 GND (power), P4 GND (power), P13 GND (power), R4 GND (power), R5 GND (power), R6 GND (power), R7 GND (power), R8 GND (power), R9 GND (power), R10 GND (power), R11 GND (power), R12 GND (power), R13 GND (power), T1 GND (power), T4 GND (power), T13 GND (power), T16 GND (power)
part A text: BANK 0
part B text: BANK 1
part C text: BANK 2
part D text: BANK 3
part E text: BANK 6
part F text: BANK 7
part G text: BANK 8

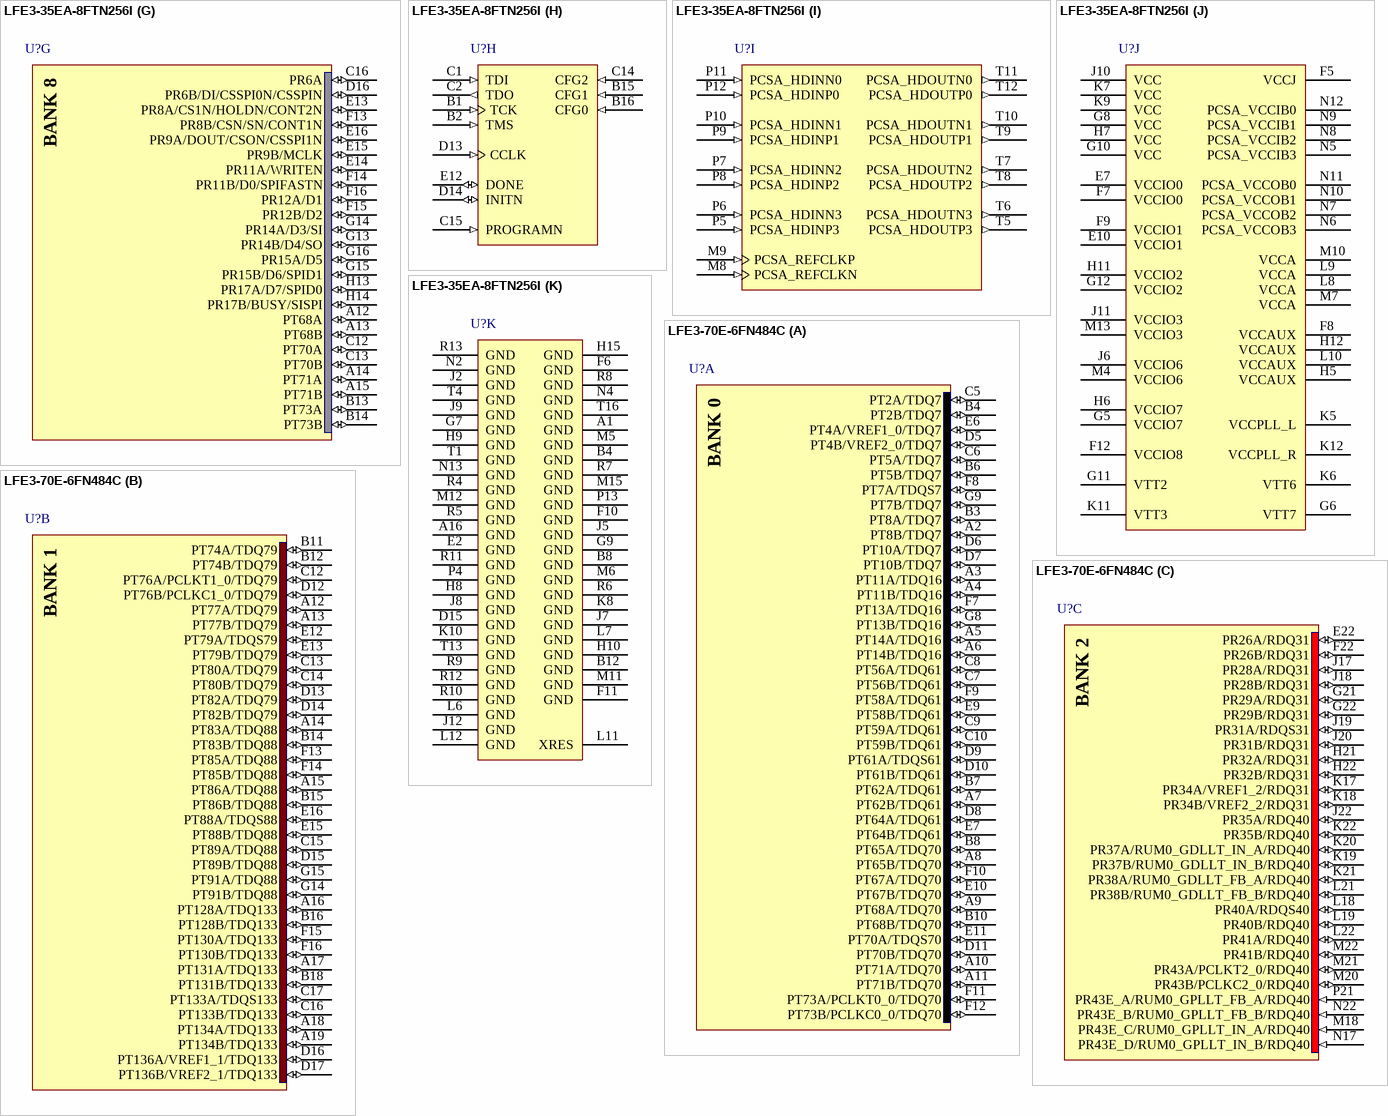
[diagram p41: symbols LFE3-35EA-8FTN256I to LFE3-70E-6FN484C]

## LFE3-35EA-8FTN256I
designator U?
ECP3 1.2V FPGA, 133 I/Os, 33K LUTs, 256-Pin BGA, Speed Grade 8, Industrial Grade, Pb-Free; DatasheetVersion: Ver 01.9EA, Jul-2011; PackageVersion: ver02.8, Jul-2011; PackageReference: ftBGA256_2; PackageDescription: 256-Ball ftBGA Package Option 2: LatticeECP3; Code_IPC: BGA100P16X16-256; ComponentLink1Description: Manufacturer URL; ComponentLink1URL: http://www.latticesemi.com/; ComponentLink2Description: Datasheet; ComponentLink2URL: http://www.latticesemi.com/documents/ds1021ea.pdf; ComponentLink3Description: Package Specification; ComponentLink3URL: http://www.latticesemi.com/lit/docs/package/pkg.pdf
footprint ftBGA256_2 (BGA, 256-Leads, Body 17x17mm, Pitch 1mm)
part A pins: A2 PT5A/TDQ7 (io), A3 PT5B/TDQ7 (io), A4 PT8A/TDQ7 (io), A5 PT8B/TDQ7 (io), A6 PT31B/TDQ34 (io), A7 PT32B/TDQ34 (io), A8 PT35A/TDQ34 (io), A9 PT35B/TDQ34 (io), B3 PT4B/VREF2_0/TDQ7 (io), B5 PT10B/TDQ7 (io), B6 PT31A/TDQ34 (io), B7 PT32A/TDQ34 (io), C3 PT4A/VREF1_0/TDQ7 (io), C4 PT2B/TDQ7 (io), C5 PT10A/TDQ7 (io), C6 PT29A/TDQ34 (io), C7 PT29B/TDQ34 (io), D4 PT2A/TDQ7 (io), D5 PT7A/TDQS7_P (io), D6 PT28B/TDQ25 (io), D7 PT34A/TDQS34_P (io), D8 PT34B/TDQS34_N (io), E5 PT7B/TDQS7_N (io), E6 PT28A/TDQ25 (io), E8 PT37A/PCLKT0_0/TDQ34 (io), E9 PT37B/PCLKC0_0/TDQ34 (io)
part B pins: A10 PT44A/TDQ43 (io), A11 PT44B/TDQ43 (io), B9 PT38B/TDQ43 (io), B10 PT43B/TDQS43_N (io), B11 PT46B/TDQ43 (io), C8 PT38A/TDQ43 (io), C9 PT40B/PCLKC1_0/TDQ43 (io), C10 PT43A/TDQS43_P (io), C11 PT46A/TDQ43 (io), D9 PT40A/PCLKT1_0/TDQ43 (io), D10 PT41A/TDQ43 (io), D11 PT64A/VREF1_1/TDQ61 (io), D12 PT64B/VREF2_1/TDQ61 (io), E11 PT41B/TDQ43 (io)
part C pins: H16 PR29A/RUM0_GDLLT_IN_A/RDQ32 (io), J13 PR26A/VREF1_2/RDQ23 (io), J14 PR26B/VREF2_2/RDQ23 (io), J15 PR29B/RUM0_GDLLT_IN_B/RDQ32 (io), K13 PR35A/PCLKT2_0/RDQ32 (io), K14 PR35E_C/RUM0_GPLLT_IN_A/RDQ32 (in), L13 PR35B/PCLKC2_0/RDQ32 (io), L14 PR35E_D/RUM0_GPLLT_IN_B/RDQ32 (in)
part D pins: J16 PR36A/RDQ41 (io), K15 PR38A/PCLKT3_0/RDQ41 (io), K16 PR36B/RDQ41 (io), L15 PR38B/PCLKC3_0/RDQ41 (io), L16 PR39A/RDQ41 (io), M14 PR42B/RDQ41 (io), M16 PR39B/RDQ41 (io), N14 PR42A/RDQ41 (io), N15 PR41B/RDQS41_N (io), N16 PR41A/RDQS41_P (io), P14 PR71B/RDQ68 (io), P15 PR44B/VREF2_3/RDQ41 (io), P16 PR44A/VREF1_3/RDQ41 (io), R14 PR71A/RDQ68 (io), R15 PR45B/RDQ50 (io), R16 PR45A/RDQ50 (io), T14 PR53E_D/RLM1_GPLLT_IN_B/RDQ50 (in), T15 PR53E_C/RLM1_GPLLT_IN_A/RDQ50 (in)
part E pins: J1 PL36A/LDQ41 (io), K1 PL38A/PCLKT6_0/LDQ41 (io), K2 PL36B/LDQ41 (io), L1 PL38B/PCLKC6_0/LDQ41 (io), L2 PL39A/LDQ41 (io), L4 PL41A/LDQS41_P (io), L5 PL41B/LDQS41_N (io), M1 PL42A/LDQ41 (io), M2 PL39B/LDQ41 (io), M3 PL44A/VREF1_6/LDQ41 (io), N1 PL42B/LDQ41 (io), N3 PL44B/VREF2_6/LDQ41 (io), P1 PL45A/LDQ50 (io), P2 PL53E_C/LLM1_GPLLT_IN_A (in), P3 PL53E_D/LLM1_GPLLT_IN_B (in), R1 PL45B/LDQ50 (io), R2 PL71A/LDQ68 (io), R3 PL71B/LDQ68 (io), T2 PL69A/LDQ68 (io), T3 PL69B/LDQ68 (io)
part F pins: D1 PL11A/LDQ14 (io), D2 PL9B/LDQ14 (io), D3 PL9A/LDQ14 (io), E1 PL11B/LDQ14 (io), E3 PL12A/LDQ14 (io), E4 PL26A/VREF1_7/LDQ23 (io), F1 PL29B/LUM0_GDLLT_IN_B/LDQ32 (io), F2 PL29A/LUM0_GDLLT_IN_A/LDQ32 (io), F3 PL27A/LDQ32 (io), F4 PL26B/VREF2_7/LDQ23 (io), G1 PL35A/PCLKT7_0/LDQ32 (io), G2 PL33A/LDQ32 (io), G3 PL27B/LDQ32 (io), G4 PL30A/LUM0_GDLLT_FB_A/LDQ32 (io), H1 PL35B/PCLKC7_0/LDQ32 (io), H2 PL33B/LDQ32 (io), H3 PL32A/LDQS32_P (io), H4 PL30B/LUM0_GDLLT_FB_B/LDQ32 (io), J3 PL32B/LDQS32_N (io), J4 PL35E_A/LUM0_GPLLT_FB_A (in), K3 PL35E_C/LUM0_GPLLT_IN_A (in), K4 PL35E_B/LUM0_GPLLT_FB_B (in), L3 PL35E_D/LUM0_GPLLT_IN_B (in)
part G pins: A12 PT68A (io), A13 PT68B (io), A14 PT71A (io), A15 PT71B (io), B13 PT73A (io), B14 PT73B (io), C12 PT70A (io), C13 PT70B (io), C16 PR6A (io), D16 PR6B/DI/CSSPI0N/CSSPIN (io), E13 PR8A/CS1N/HOLDN/CONT2N (io), E14 PR11A/WRITEN (io), E15 PR9B/MCLK (io), E16 PR9A/DOUT/CSON/CSSPI1N (io), F13 PR8B/CSN/SN/CONT1N (io), F14 PR11B/D0/SPIFASTN (io), F15 PR12B/D2 (io), F16 PR12A/D1 (io), G13 PR14B/D4/SO (io), G14 PR14A/D3/SI (io), G15 PR15B/D6/SPID1 (io), G16 PR15A/D5 (io), H13 PR17A/D7/SPID0 (io), H14 PR17B/BUSY/SISPI (io)
part H pins: B1 TCK (in), B2 TMS (in), B15 CFG1 (in), B16 CFG0 (in), C1 TDI (in), C2 TDO (out), C14 CFG2 (in), C15 PROGRAMN (in), D13 CCLK (in), D14 INITN (io), E12 DONE (io)
part I pins: M8 PCSA_REFCLKN (in), M9 PCSA_REFCLKP (in), P5 PCSA_HDINP3 (in), P6 PCSA_HDINN3 (in), P7 PCSA_HDINN2 (in), P8 PCSA_HDINP2 (in), P9 PCSA_HDINP1 (in), P10 PCSA_HDINN1 (in), P11 PCSA_HDINN0 (in), P12 PCSA_HDINP0 (in), T5 PCSA_HDOUTP3 (out), T6 PCSA_HDOUTN3 (out), T7 PCSA_HDOUTN2 (out), T8 PCSA_HDOUTP2 (out), T9 PCSA_HDOUTP1 (out), T10 PCSA_HDOUTN1 (out), T11 PCSA_HDOUTN0 (out), T12 PCSA_HDOUTP0 (out)
part J pins: E7 VCCIO0 (power), E10 VCCIO1 (power), F5 VCCJ (power), F7 VCCIO0 (power), F8 VCCAUX (power), F9 VCCIO1 (power), F12 VCCIO8 (power), G5 VCCIO7 (power), G6 VTT7 (power), G8 VCC (power), G10 VCC (power), G11 VTT2 (power), G12 VCCIO2 (power), H5 VCCAUX (power), H6 VCCIO7 (power), H7 VCC (power), H11 VCCIO2 (power), H12 VCCAUX (power), J6 VCCIO6 (power), J10 VCC (power), J11 VCCIO3 (power), K5 VCCPLL_L (power), K6 VTT6 (power), K7 VCC (power), K9 VCC (power), K11 VTT3 (power), K12 VCCPLL_R (power), L8 VCCA (power), L9 VCCA (power), L10 VCCAUX (power), M4 VCCIO6 (power), M7 VCCA (power), M10 VCCA (power), M13 VCCIO3 (power), N5 PCSA_VCCIB3 (power), N6 PCSA_VCCOB3 (power), N7 PCSA_VCCOB2 (power), N8 PCSA_VCCIB2 (power), N9 PCSA_VCCIB1 (power), N10 PCSA_VCCOB1 (power), N11 PCSA_VCCOB0 (power), N12 PCSA_VCCIB0 (power)
part K pins: A1 GND (power), A16 GND (power), B4 GND (power), B8 GND (power), B12 GND (power), D15 GND (power), E2 GND (power), F6 GND (power), F10 GND (power), F11 GND (power), G7 GND (power), G9 GND (power), H8 GND (power), H9 GND (power), H10 GND (power), H15 GND (power), J2 GND (power), J5 GND (power), J7 GND (power), J8 GND (power), J9 GND (power), J12 GND (power), K8 GND (power), K10 GND (power), L6 GND (power), L7 GND (power), L11 XRES, L12 GND (power), M5 GND (power), M6 GND (power), M11 GND (power), M12 GND (power), M15 GND (power), N2 GND (power), N4 GND (power), N13 GND (power), P4 GND (power), P13 GND (power), R4 GND (power), R5 GND (power), R6 GND (power), R7 GND (power), R8 GND (power), R9 GND (power), R10 GND (power), R11 GND (power), R12 GND (power), R13 GND (power), T1 GND (power), T4 GND (power), T13 GND (power), T16 GND (power)
part A text: BANK 0
part B text: BANK 1
part C text: BANK 2
part D text: BANK 3
part E text: BANK 6
part F text: BANK 7
part G text: BANK 8

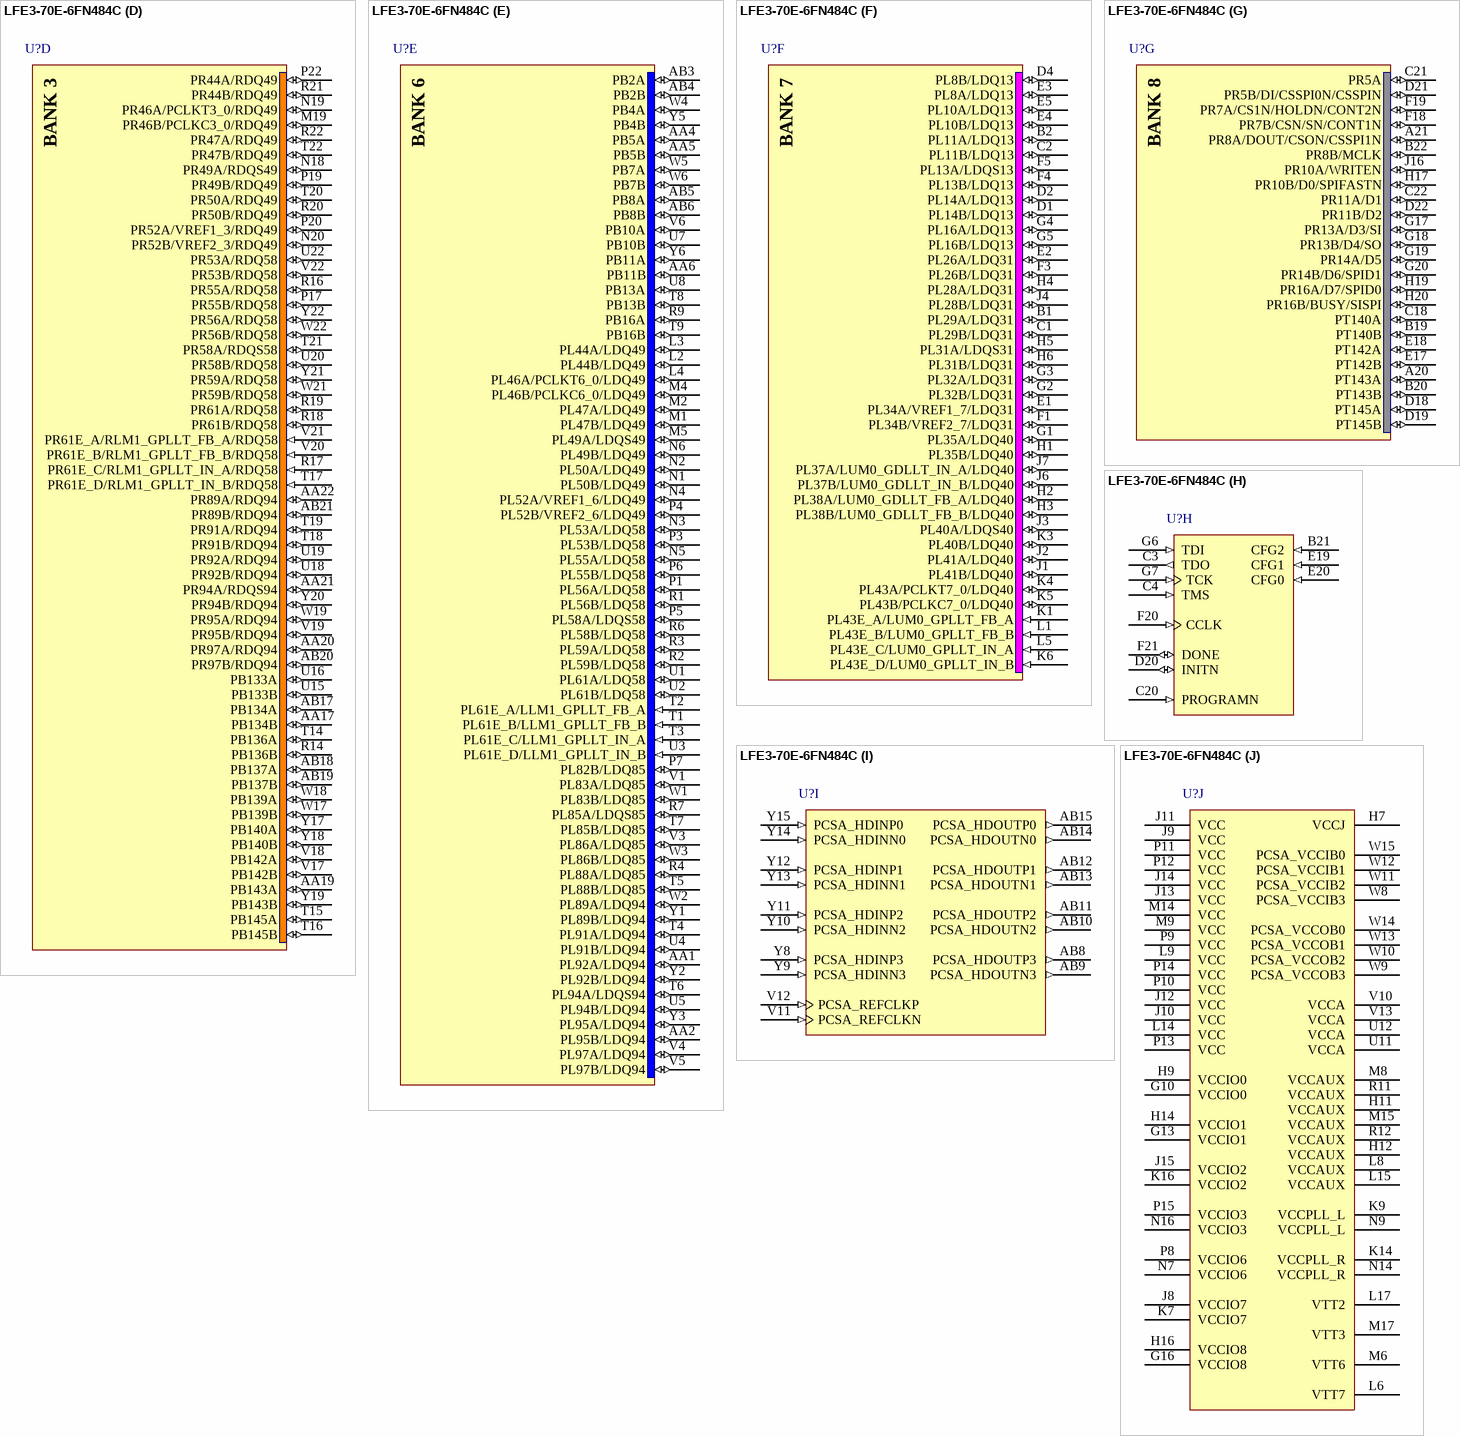
[diagram p42: symbol LFE3-70E-6FN484C]

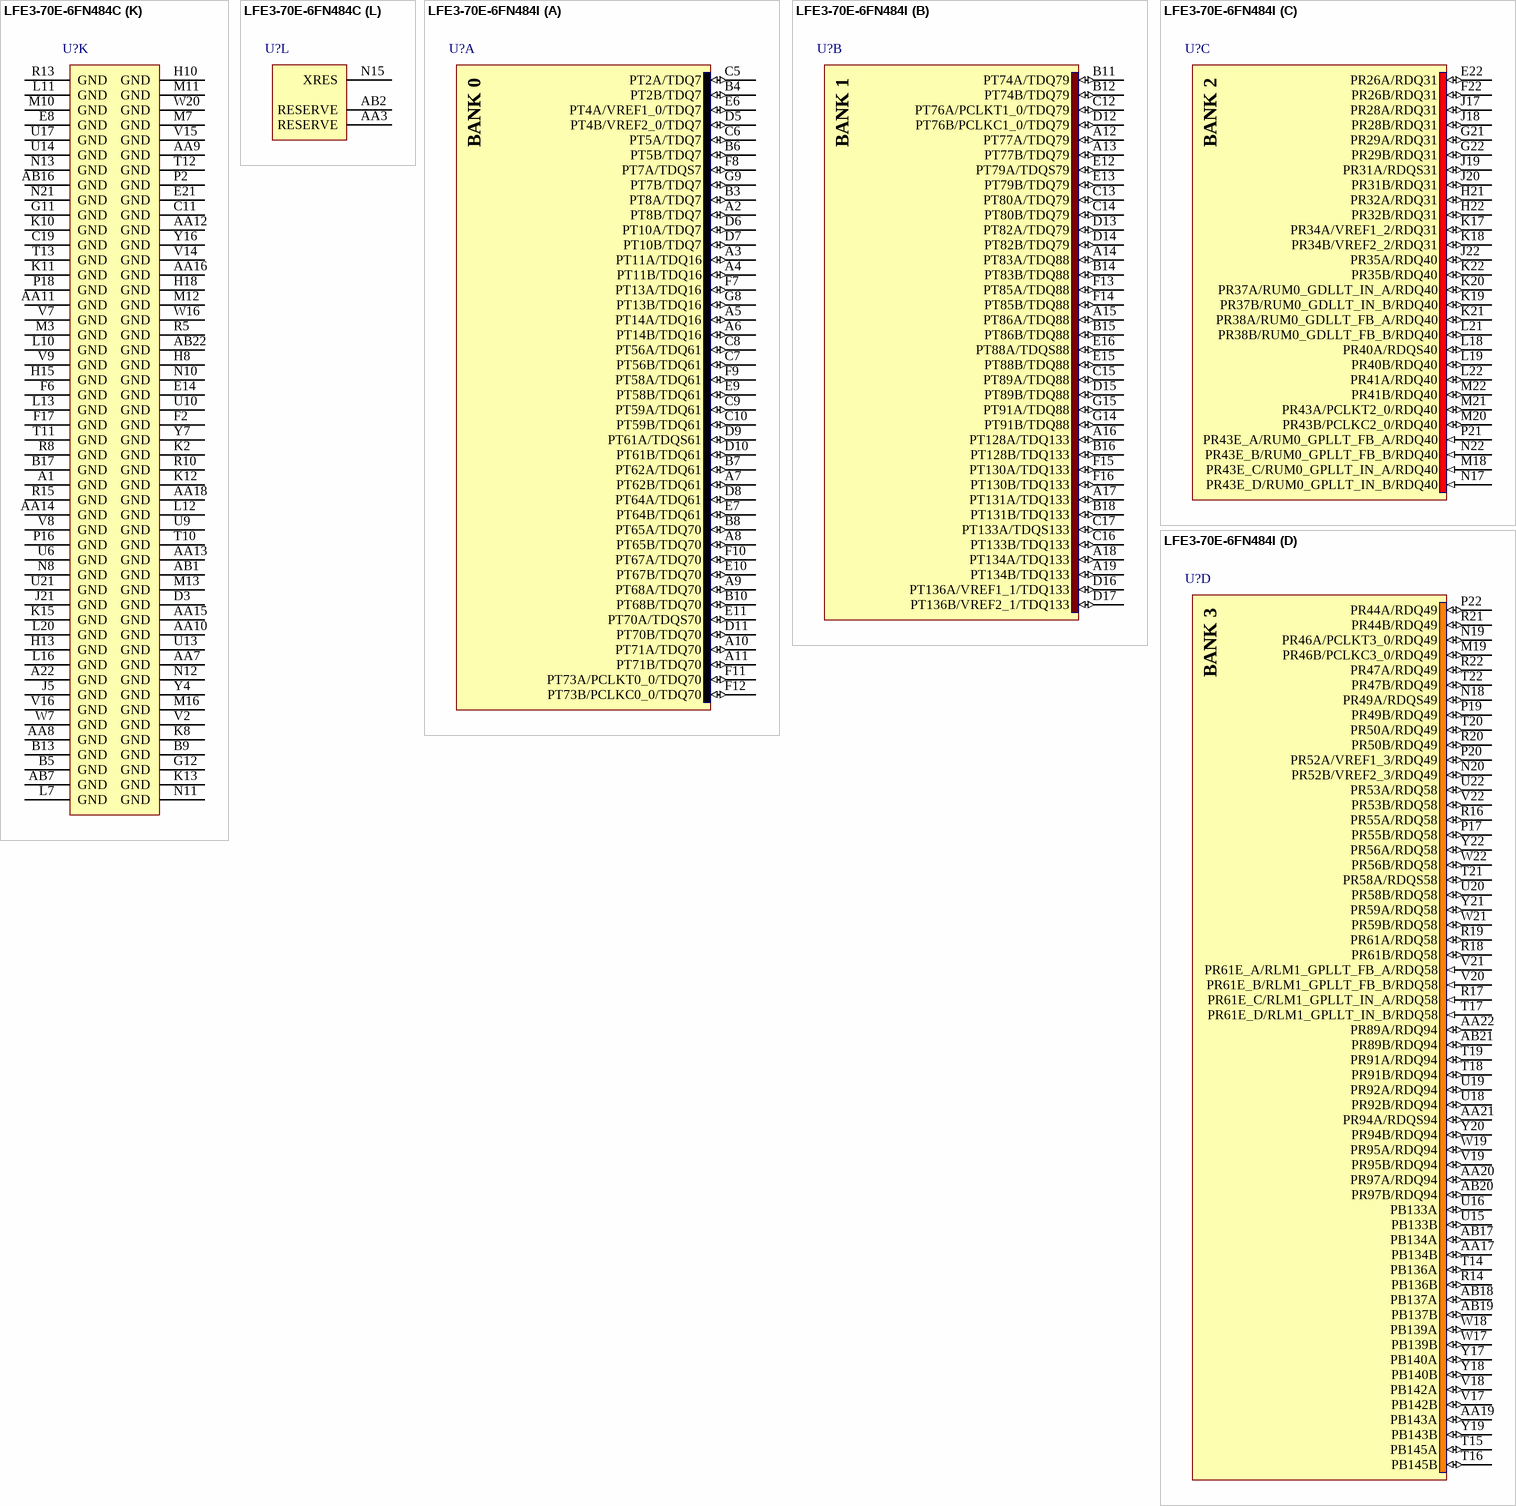
[diagram p43: symbols LFE3-70E-6FN484C to LFE3-70E-6FN484I]